# Altium schematic symbol library SchLibrary.SchLib: 142 symbols
Pins are listed as number, name and electrical type; pins without a type are passive.

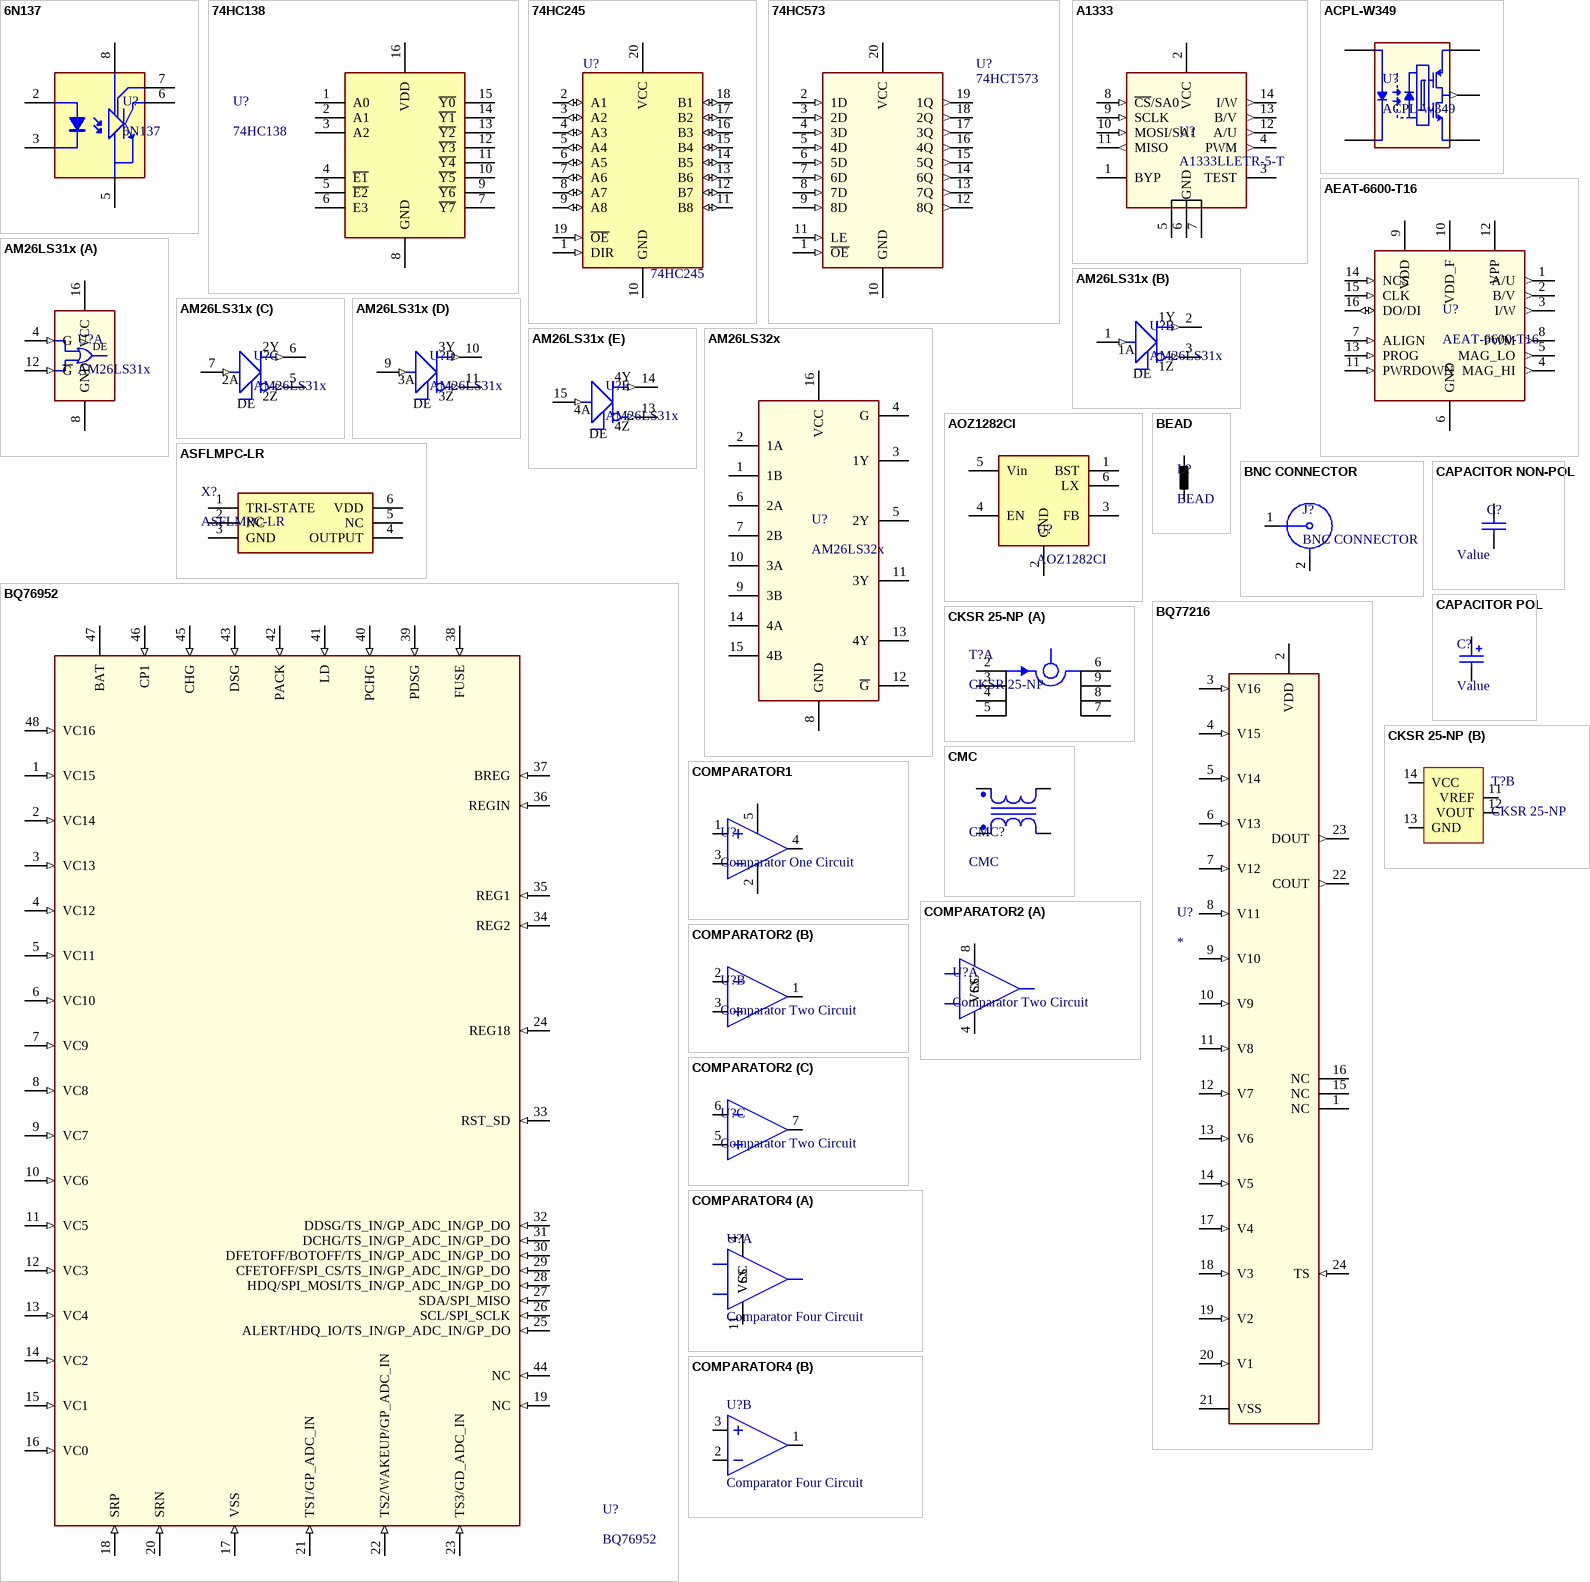
[diagram p0: symbols 6N137 to COMPARATOR4]

## 6N137
designator U?
Stock Code: *; Component Type: IC
pins: 2, 3, 5, 6, 7, 8

## 74HC138
designator U?
DECODER/DEMUX SINGLE 3-TO-8; Component Type: IC
pins: 1 A0, 2 A1, 3 A2, 4 ~{E1}, 5 ~{E2}, 6 E3, 7 ~{Y7}, 8 GND, 9 ~{Y6}, 10 ~{Y5}, 11 ~{Y4}, 12 ~{Y3}, 13 ~{Y2}, 14 ~{Y1}, 15 ~{Y0}, 16 VDD

## 74HC245
designator U?
IC BUS TRANSCEIVER 8BIT 20-Pin; Stock Code: *; Component Type: IC
pins: 1 DIR (in), 2 A1 (io), 3 A2 (io), 4 A3 (io), 5 A4 (io), 6 A5 (io), 7 A6 (io), 8 A7 (io), 9 A8 (io), 10 GND (power), 11 B8 (io), 12 B7 (io), 13 B6 (io), 14 B5 (io), 15 B4 (io), 16 B3 (io), 17 B2 (io), 18 B1 (io), 19 ~{OE} (in), 20 VCC (power)

## 74HC573
designator U?, comment 74HCT573
D-Type Transparent Latch; Stock Code: *; Component Type: IC
footprint SOIC127P1030X265-20M (SOIC, 20-Leads, Body 13,0x7,6mm (max), Pitch 1,27mm, IPC Low Density)
pins: 1 ~{OE} (in), 2 1D (in), 3 2D (in), 4 3D (in), 5 4D (in), 6 5D (in), 7 6D (in), 8 7D (in), 9 8D (in), 10 GND (power), 11 LE (in), 12 8Q (out), 13 7Q (out), 14 6Q (out), 15 5Q (out), 16 4Q (out), 17 3Q (out), 18 2Q (out), 19 1Q (out), 20 VCC (power)

## A1333
designator U?, comment A1333LLETR-5-T
Magnetic Rotary Encoder IC; Stock Code: *; Component Type: IC
footprint TSOP65P640X110-14N (TSOP, 14-Leads, Body 5,00x4,40mm, Pitch 0,65mm, IPC Medium Density)
pins: 1 BYP, 2 VCC (power), 3 TEST, 4 PWM (out), 5 GND (power), 6 GND (power), 7 GND (power), 8 ~{CS}/SA0 (in), 9 SCLK (in), 10 MOSI/SA1 (in), 11 MISO (out), 12 A/U (out), 13 B/V (out), 14 I/W (out)

## ACPL-W349
designator U?
SiC OPTO DRIVER 5KV 1CH GATE DRIVER 6SO; Component Type: IC
footprint SO-6W 8MM (Stretched SO-6 Package (8-mm Clearance))
pins: 1, 2 hidden, 3, 4 (power), 5 (out), 6 (power)

## AEAT-6600-T16
designator U?
Magnetic Rotary Encoder IC; Stock Code: *; Component Type: IC
footprint TSOP65P640X120-16N (TSOP, 16-Leads, Body 5,00x4,40mm, Pitch 0,65mm, IPC Medium Density)
pins: 1 A/U (out), 2 B/V (out), 3 I/W (out), 4 MAG_HI (out), 5 MAG_LO (out), 6 GND (power), 7 ALIGN (in), 8 PWM (out), 9 VDD (power), 10 VDD_F (power), 11 PWRDOWN (in), 12 VPP (power), 13 PROG (in), 14 NCS (in), 15 CLK (in), 16 DO/DI (io)

## AM26LS31x
designator U?
Quadruple Differential Line Driver; Stock Code: *; Component Type: IC
footprint SOIC127P600X175-16N (SOIC, 16-Leads, Body 9,90x3,90mm, Pitch 1,27mm, IPC Medium Density)
part A pins: 4 G (in), 8 GND (power), 12 ~{G} (in), 16 VCC (power)
part B pins: 1 1A (in), 2 1Y (out), 3 1Z (out)
part C pins: 5 2Z (out), 6 2Y (out), 7 2A (in)
part D pins: 9 3A (in), 10 3Y (out), 11 3Z (out)
part E pins: 13 4Z (out), 14 4Y (out), 15 4A (in)
part A text: DE
part B text: DE
part C text: DE
part D text: DE
part E text: DE

## AM26LS32x
designator U?
footprint SOIC127P600X175-16N (SOIC, 16-Leads, Body 9,90x3,90mm, Pitch 1,27mm, IPC Medium Density)
pins: 1 1B, 2 1A, 3 1Y, 4 G, 5 2Y, 6 2A, 7 2B, 8 GND, 9 3B, 10 3A, 11 3Y, 12 ~{G}, 13 4Y, 14 4A, 15 4B, 16 VCC

## AOZ1282CI
designator U?
IC REG BUCK ADJ 1.2A SOT23-6; Component Type: IC
footprint SOT95P245X110-6N (SOT23, 6-Leads, Body 2,90x2,45mm, Pitch 0,95mm, IPC Medium Density)
pins: 1 BST, 2 GND, 3 FB, 4 EN, 5 Vin, 6 LX

## ASFLMPC-LR
designator X?
OSCILLATOR; Stock Code: *; Component Type: IC
pins: 1 TRI-STATE, 2 NC, 3 GND, 4 OUTPUT, 5 NC, 6 VDD

## BEAD
designator L?
FERRITE BEAD; Stock Code: *; Component Type: Inductor
footprint CL1608-0603L (Chip Inductor, Body 1.6x0.8mm, IPC Low Density)
footprint CL2012-0805L (Chip Inductor, Body 2.0 x 1.3 mm, IPC Low Density)
footprint CL3216-1206L (Chip Inductor, Body 3.2x1.6mm, IPC Medium Density)
footprint CL3225-1210L (Chip Inductor, Body 3.2x2.5mm, IPC Low Density)
footprint CL6332-2512L (Chip Inductor, Body 6.3x3.2mm, IPC Low Density)
pins: 1, 2

## BNC CONNECTOR
designator J?
Stock Code: *; Component Type: Connector
pins: 1, 2 hidden, 2 hidden, 2 hidden, 2, 2

## BQ76952
designator U?
footprint TQFP-48 (TQFP, 48-Leads, Body 7,00x7,00mm, Pitch 0,50mm, IPC Medium Density)
pins: 1 VC15 (in), 2 VC14 (in), 3 VC13 (in), 4 VC12 (in), 5 VC11 (in), 6 VC10 (in), 7 VC9 (in), 8 VC8 (in), 9 VC7 (in), 10 VC6 (in), 11 VC5 (in), 12 VC3 (in), 13 VC4 (in), 14 VC2 (in), 15 VC1 (in), 16 VC0 (in), 17 VSS (in), 18 SRP (in), 19 NC (in), 20 SRN (in), 21 TS1/GP_ADC_IN (in), 22 TS2/WAKEUP/GP_ADC_IN (in), 23 TS3/GD_ADC_IN (in), 24 REG18 (in), 25 ALERT/HDQ_IO/TS_IN/GP_ADC_IN/GP_DO (in), 26 SCL/SPI_SCLK (in), 27 SDA/SPI_MISO (in), 28 HDQ/SPI_MOSI/TS_IN/GP_ADC_IN/GP_DO (in), 29 CFETOFF/SPI_CS/TS_IN/GP_ADC_IN/GP_DO (in), 30 DFETOFF/BOTOFF/TS_IN/GP_ADC_IN/GP_DO (in), 31 DCHG/TS_IN/GP_ADC_IN/GP_DO (in), 32 DDSG/TS_IN/GP_ADC_IN/GP_DO (in), 33 RST_SD (in), 34 REG2 (in), 35 REG1 (in), 36 REGIN (in), 37 BREG (in), 38 FUSE (in), 39 PDSG (in), 40 PCHG (in), 41 LD (in), 42 PACK (in), 43 DSG (in), 44 NC (in), 45 CHG (in), 46 CP1 (in), 47 BAT (power), 48 VC16 (in)

## BQ77216
designator U?
footprint TSSOP65P640X110-24N (TSSOP, 24-Leads, Body 7,80x4,40mm, Pitch 0,65mm, IPC Medium Density)
pins: 1 NC, 2 VDD (power), 3 V16 (in), 4 V15 (in), 5 V14 (in), 6 V13 (in), 7 V12 (in), 8 V11 (in), 9 V10 (in), 10 V9 (in), 11 V8 (in), 12 V7 (in), 13 V6 (in), 14 V5 (in), 15 NC, 16 NC, 17 V4 (in), 18 V3 (in), 19 V2 (in), 20 V1 (in), 21 VSS (power), 22 COUT (out), 23 DOUT (out), 24 TS (in)

## CAPACITOR NON-POL
designator C?, comment Value
Capacitor; Stock Code: *; Component Type: Capacitor
footprint CC6332-2512L (Chip Capacitor, Body 6.3x3.2mm, IPC Low Density)
footprint CC3225-1210L (Chip Capacitor, Body 3.2x2.5mm, IPC Low Density)
footprint CC3216-1206L (Chip Capacitor, Body 3.2x1.6mm, IPC Low Density)
footprint CC2012-0805L (Chip Capacitor, Body 2.0x1.3mm, IPC Low Density)
footprint CC1608-0603L (Chip Capacitor, Body 1.6x0.8mm, IPC Low Density)
pins: 1, 2

## CAPACITOR POL
designator C?, comment Value
Capacitor; Stock Code: *; Component Type: Capacitor
pins: 1, 2

## CKSR 25-NP
designator T?
Current Transformer; Stock Code: *; Component Type: CT
footprint CKSR (CKSR Series Current Transducer)
part A pins: 2 IN 2, 3 IN 3, 4 IN 4, 5 IN 5, 6 IN 6, 7 IN 7, 8 IN 8, 9 IN 9
part B pins: 11 VREF, 12 VOUT, 13 GND, 14 VCC

## CMC
designator CMC?
Common Mode Choke; Component Type: Inductor
footprint CMC P1_20 P2_20.4 W30 L45 H45
footprint CMC P1:37.5 P2:20.4 W45 L50 H50
footprint LPD4012 (COMMON MODE CHOKE)
footprint CMC P1:10 P2:13 L:16 W:18 H:26
pins: 1, 2, 3, 4

## COMPARATOR1
designator U?, comment Comparator One Circuit
Single Comparator Check the suitability of the case with the pin number; Stock Code: *; Component Type: IC
footprint SOIC8 (SOIC, 8-Leads, Body 4.9x3.9mm, Pitch 1.27mm, IPC Low Density)
pins: 1, 2, 3, 4 VSS, 5 VCC

## COMPARATOR2
designator U?, comment Comparator Two Circuit
Dual Comparator; Stock Code: *; Component Type: IC
footprint SOIC8 (SOIC, 8-Leads, Body 4.9x3.9mm, Pitch 1.27mm, IPC Low Density)
part A pins: 4 VSS, 8 VCC
part B pins: 1, 2, 3
part C pins: 5, 6, 7

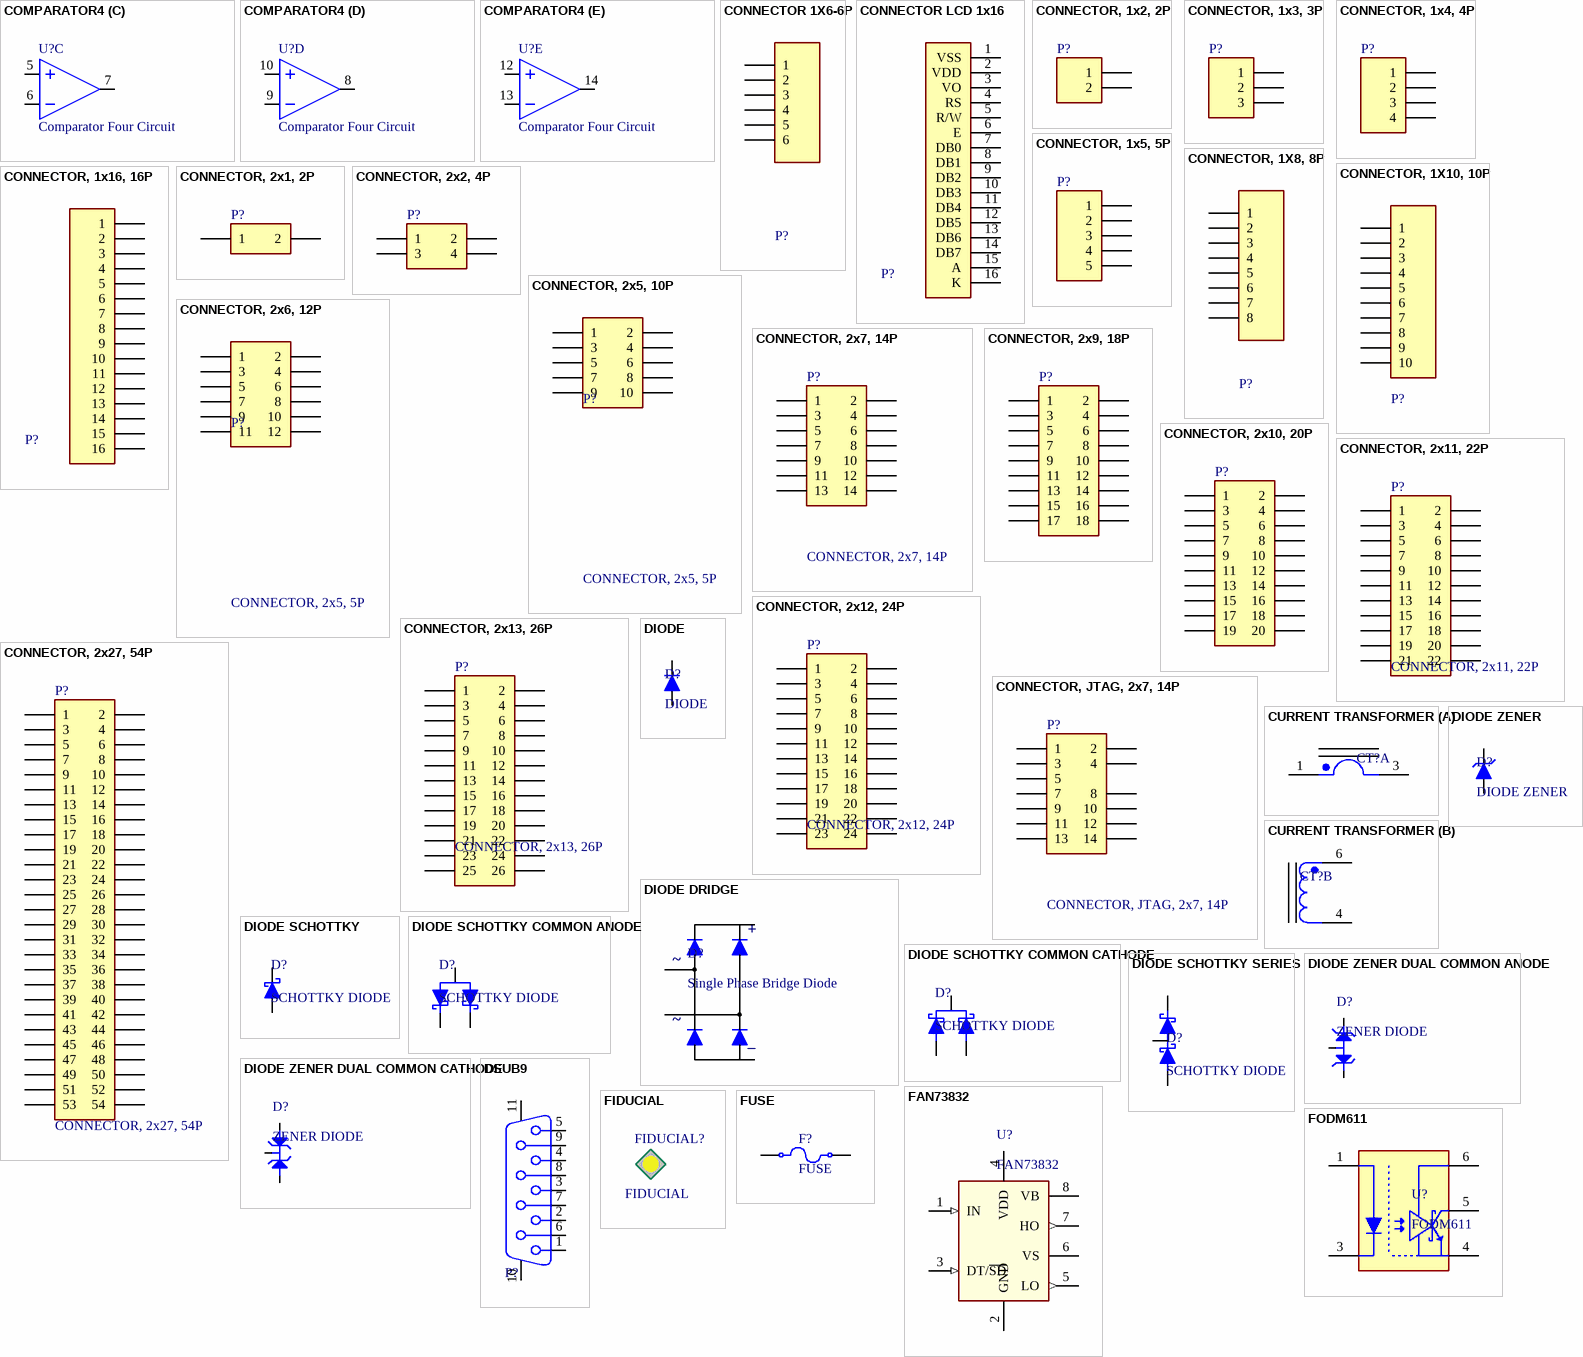
[diagram p1: symbols COMPARATOR4 to FUSE]

## COMPARATOR4
designator U?, comment Comparator Four Circuit
Quadruple Comparator; Stock Code: *; Component Type: IC
footprint SO-14
part A pins: 4 VCC, 11 VSS
part B pins: 1, 2, 3
part C pins: 5, 6, 7
part D pins: 8, 9, 10
part E pins: 12, 13, 14

## CONNECTOR 1X6-6P
designator P?  (value not drawn)
Stock Code: *; Component Type: Connector
footprint HDR_MALE_1X6_56_2.54MM_180 (Male Header, 1x6, 6p, 2.54mm, 180 degree)
pins: 1, 2, 3, 4, 5, 6

## CONNECTOR LCD 1x16
designator P?  (value not drawn)
LCD CONNECTOR 1x16; Component Type: Connector
footprint LCD 2004
pins: 1 VSS, 2 VDD, 3 VO, 4 RS, 5 R/W, 6 E, 7 DB0, 8 DB1, 9 DB2, 10 DB3, 11 DB4, 12 DB5, 13 DB6, 14 DB7, 15 A, 16 K

## CONNECTOR, 1x2, 2P
designator P?  (value not drawn)
Stock Code: *; Component Type: Connector
footprint HDR_MALE_1X2_2P_2.54MM_180 (Male Header, 1x2, 2p, 2.54mm, 180 degree)
pins: 1, 2

## CONNECTOR, 1x3, 3P
designator P?  (value not drawn)
Component Type: Connector
pins: 1, 2, 3

## CONNECTOR, 1x4, 4P
designator P?  (value not drawn)
Component Type: Connector
pins: 1, 2, 3, 4

## CONNECTOR, 1x5, 5P
designator P?  (value not drawn)
Component Type: Connector
pins: 1, 2, 3, 4, 5

## CONNECTOR, 1X8, 8P
designator P?, comment CONNECTOR 1X8-8P  (value not drawn)
Stock Code: *; Component Type: Connector
pins: 1, 2, 3, 4, 5, 6, 7, 8

## CONNECTOR, 1X10, 10P
designator P?, comment CONNECTOR 1X10-10P  (value not drawn)
Stock Code: *; Component Type: Connector
footprint DS1070-10MRV6 (Connector, 10p, 2.54mm, 90 degree)
footprint DS1070-10MVV6 (Connector, 10p, 2.54mm, 180 degree)
pins: 1, 2, 3, 4, 5, 6, 7, 8, 9, 10

## CONNECTOR, 1x16, 16P
designator P?  (value not drawn)
Component Type: Connector
pins: 1, 2, 3, 4, 5, 6, 7, 8, 9, 10, 11, 12, 13, 14, 15, 16

## CONNECTOR, 2x1, 2P
designator P?  (value not drawn)
Component Type: Connector
pins: 1, 2

## CONNECTOR, 2x2, 4P
designator P?, comment CONNECTOR, 2x1, 2P  (value not drawn)
Component Type: Connector
footprint HDR_MALE_2X2_4P_2.54MM_180 (Male Header, 4p, 2.54mm, 180 degree)
pins: 1, 2, 3, 4

## CONNECTOR, 2x5, 10P
designator P?, comment CONNECTOR, 2x5, 5P
CONNECTOR, 2x5, 10P; Stock Code: *; Component Type: Connector
footprint HDR_BOX_2X5_10P_2.54MM_180 (Box Header, 10p, 2.54mm, 180 degree)
pins: 1, 2, 3, 4, 5, 6, 7, 8, 9, 10

## CONNECTOR, 2x6, 12P
designator P?, comment CONNECTOR, 2x5, 5P
CONNECTOR, 2x6, 12P; Stock Code: *; Component Type: Connector
footprint HDR_MALE_2X6_12P_2.54MM_180 (Male Header, 12p, 2.54mm)
pins: 1, 2, 3, 4, 5, 6, 7, 8, 9, 10, 11, 12

## CONNECTOR, 2x7, 14P
designator P?
Stock Code: *; Component Type: Connector
pins: 1, 2, 3, 4, 5, 6, 7, 8, 9, 10, 11, 12, 13, 14

## CONNECTOR, 2x9, 18P
designator P?  (value not drawn)
Component Type: Connector
pins: 1, 2, 3, 4, 5, 6, 7, 8, 9, 10, 11, 12, 13, 14, 15, 16, 17, 18

## CONNECTOR, 2x10, 20P
designator P?  (value not drawn)
Component Type: Connector; Stock Code: *
pins: 1, 2, 3, 4, 5, 6, 7, 8, 9, 10, 11, 12, 13, 14, 15, 16, 17, 18, 19, 20

## CONNECTOR, 2x11, 22P
designator P?
Component Type: Connector; Stock Code: *
pins: 1, 2, 3, 4, 5, 6, 7, 8, 9, 10, 11, 12, 13, 14, 15, 16, 17, 18, 19, 20, 21, 22

## CONNECTOR, 2x12, 24P
designator P?
Component Type: Connector; Stock Code: *
pins: 1, 2, 3, 4, 5, 6, 7, 8, 9, 10, 11, 12, 13, 14, 15, 16, 17, 18, 19, 20, 21, 22, 23, 24

## CONNECTOR, 2x13, 26P
designator P?
Stock Code: *; Component Type: Connector
pins: 1, 2, 3, 4, 5, 6, 7, 8, 9, 10, 11, 12, 13, 14, 15, 16, 17, 18, 19, 20, 21, 22, 23, 24, 25, 26

## CONNECTOR, 2x27, 54P
designator P?
Component Type: Connector; Stock Code: *
pins: 1, 2, 3, 4, 5, 6, 7, 8, 9, 10, 11, 12, 13, 14, 15, 16, 17, 18, 19, 20, 21, 22, 23, 24, 25, 26, 27, 28, 29, 30, 31, 32, 33, 34, 35, 36, 37, 38, 39, 40, 41, 42, 43, 44, 45, 46, 47, 48, 49, 50, 51, 52, 53, 54

## CONNECTOR, JTAG, 2x7, 14P
designator P?
Stock Code: *; Component Type: Connector
footprint HDR_BOX_JTAG_2X7_14P_2.54MM_180 (Footprint not found)
pins: 1, 2, 3, 4, 5, 7, 8, 9, 10, 11, 12, 13, 14

## CURRENT TRANSFORMER
designator CT?  (value not drawn)
Component Type: CT; Stock Code: *
part A pins: 1, 3
part B pins: 4, 6

## DIODE
designator D?
Component Type: Diode; Stock Code: *
footprint SMA (DIOM4326X24N, Molded Diode, 2-Leads, Body 4.30x2.61mm, IPC Medium Density)
footprint SMB (DO-214-AA/SMB; 2 C-Bend Leads; Body 5.3 x 3.6 mm, inc. leads (LxW))
footprint SOD123
pins: 1, 2

## DIODE DRIDGE
designator D?, comment Single Phase Bridge Diode
Component Type: Diode; Stock Code: *
footprint KBL 4XX (Bridge Rectifier, 4A 1000V)
pins: 1 +, 2 ~, 3 ~, 4 -
text: _

## DIODE SCHOTTKY
designator D?, comment SCHOTTKY DIODE
SINGLE SCHOTTKY DIODE / Check the suitability of the case with the pin number; Stock Code: *; Component Type: Diode
pins: 1, 2
2 alternate drawings of the same symbol

## DIODE SCHOTTKY COMMON ANODE
designator D?, comment SCHOTTKY DIODE
DOUBLE SCHOTTKY DIODE / Check the suitability of the case with the pin number; Stock Code: *; Component Type: Diode
pins: 1, 2, 3
2 alternate drawings of the same symbol

## DIODE SCHOTTKY COMMON CATHODE
designator D?, comment SCHOTTKY DIODE
SINGLE SCHOTTKY DIODE / Check the suitability of the case with the pin number; Stock Code: *; Component Type: Diode
pins: 1, 2, 3
2 alternate drawings of the same symbol

## DIODE SCHOTTKY SERIES
designator D?, comment SCHOTTKY DIODE
DOUBLE SCHOTTKY DIODE / Check the suitability of the case with the pin number; Stock Code: *; Component Type: Diode
footprint SOT95P230X110-3N (SOT23, 3-Leads, Body 2.90x2.30mm, Pitch 0.95mm, IPC Medium Density)
pins: 1, 2, 3
2 alternate drawings of the same symbol

## DIODE ZENER
designator D?
Component Type: Diode; Stock Code: *
pins: 1, 2

## DIODE ZENER DUAL COMMON ANODE
designator D?, comment ZENER DIODE
DUAL COMMON ANODE / Check the suitability of the case with the pin number; Component Type: Diode; Stock Code: *
pins: 1 C, 2 C, 3 A

## DIODE ZENER DUAL COMMON CATHODE
designator D?, comment ZENER DIODE
DUAL COMMON CATHODE / Check the suitability of the case with the pin number; Component Type: Diode; Stock Code: *
pins: 1 C, 2 C, 3 A

## DSUB9
designator P?  (value not drawn)
Component Type: Connector
footprint DSUB1.385-2H9 (Connector; D Subminiature; 9 Position; Right Angle; Pitch 1.385 mm)
pins: 1, 2, 3, 4, 5, 6, 7, 8, 9, 10 MH1, 11 MH2
2 alternate drawings of the same symbol

## FAN73832
designator U?
Stock Code: *; Component Type: IC
pins: 1 IN (in), 2 GND (power), 3 DT/~{SD} (in), 4 VDD (power), 5 LO (out), 6 VS (power), 7 HO (out), 8 VB (power)

## FIDUCIAL
designator FIDUCIAL?  (no BOM)
Fidutial; Stock Code: *
footprint FIDUCIAL 1 (Fidutial 1mm with Top Layer Polygon Cutout)

## FODM611
designator U?
Stock Code: *; Component Type: IC
footprint SOTFL127P700X240-5N (SOTFL, 5-Leads, Body 4,10x7,00mm, Pitch 1,27mm, IPC Medium Density)
pins: 1 NC, 3 K, 4 NC2, 5 GND, 6 C

## FUSE
designator F?
Component Type: Fuse; Stock Code: *
pins: 1, 2

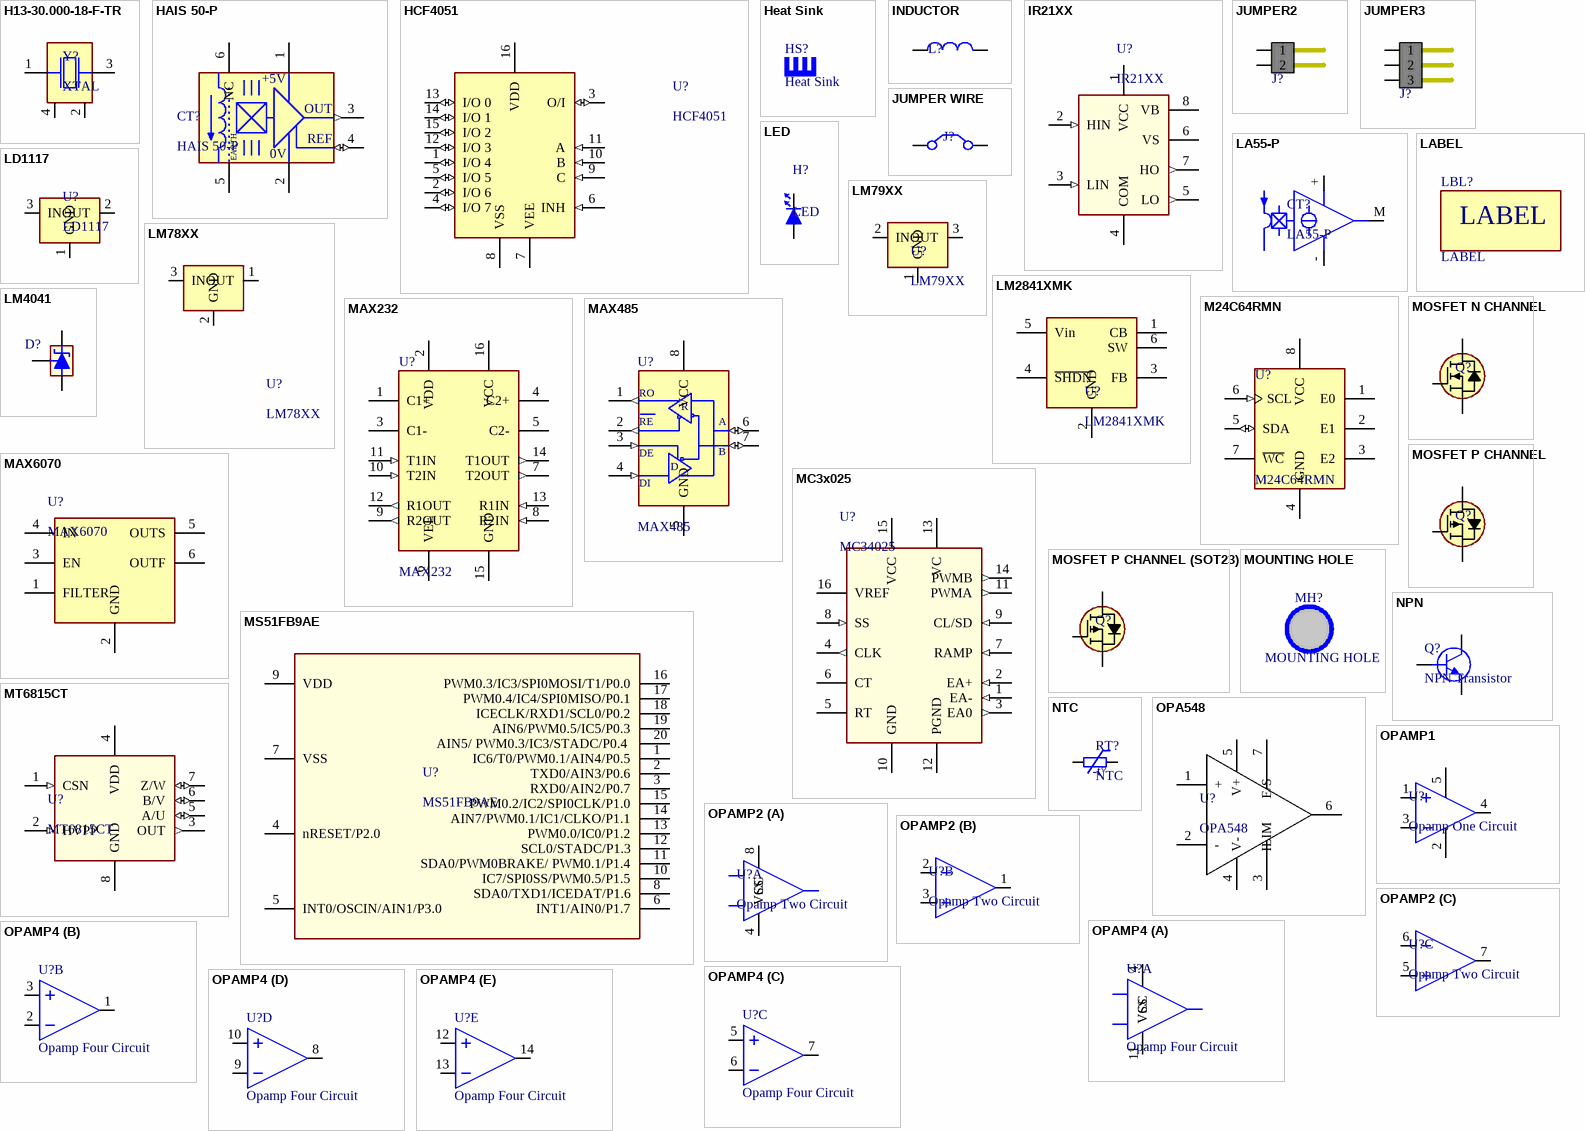
[diagram p2: symbols H13-30.000-18-F-TR to OPAMP4]

## H13-30.000-18-F-TR
designator Y?, comment XTAL
H13-30.000-18-F-TR; Stock Code: *; Component Type: XTAL
footprint H13 CRYSTAL
footprint H13 CRYSTAL
pins: 1 X1, 2 NC, 3 X2, 4 NC

## HAIS 50-P
designator CT?
Component Type: CT; Stock Code: *
footprint HAIS 50-P
pins: 1 VCC (power), 2 VSS (power), 3 OUT (out), 4 REF (io), 5 EARTH (power), 6 NC (power)
text: +5V; 0V

## HCF4051
designator U?
IC MUX/DEMUX SGL 8CH 16SOIC; Component Type: IC; Stock Code: *
footprint SOIC127P600X175-16N (SOIC, 16-Leads, Body 9,90x3,90mm, Pitch 1,27mm, IPC Medium Density)
pins: 1 I/O 4 (io), 2 I/O 6 (io), 3 O/I (io), 4 I/O 7 (io), 5 I/O 5 (io), 6 INH (in), 7 VEE (power), 8 VSS (power), 9 C (in), 10 B (in), 11 A (in), 12 I/O 3 (io), 13 I/O 0 (io), 14 I/O 1 (io), 15 I/O 2 (io), 16 VDD (power)

## Heat Sink
designator HS?
Stock Code: *
footprint HEAT SINK
footprint HEAT SINK 3 (HEAT SINK L95 W23.5 H25.7)
footprint HEAT SINK 4 (HEAT SINK)

## INDUCTOR
designator L?  (value not drawn)
Stock Code: *; Component Type: Inductor
footprint SDC105RHP (A=10.3 max. B=10.5 max. C=7.70 REF D=5.1 max. E=3.0 REF F=1.2 REF)
footprint DO3316P
pins: 1, 2
2 alternate drawings of the same symbol

## IR21XX
designator U?
IC-2101 HIGH-LOW DRIVER SOP8 IR; Stock Code: *; Component Type: IC
footprint SOIC127P600X175-8N (SOIC, 8-Leads, Body 4,90x3,90mm, Pitch 1,27mm, IPC Medium Density)
pins: 1 VCC (power), 2 HIN (in), 3 LIN (in), 4 COM (power), 5 LO (out), 6 VS (power), 7 HO (out), 8 VB (power)

## JUMPER2
designator J?  (value not drawn)
Jumper Two Circuit; Stock Code: *
footprint HDR1x2 MALE 180 2.54MM
pins: 1, 2

## JUMPER3
designator J?  (value not drawn)
Jumper Three Circuit; Stock Code: *
footprint HDR1x3 MALE 180 2.54MM
pins: 1, 2, 3

## JUMPER WIRE
designator J?, comment Jumper Wire  (value not drawn)
Jumper, Star Point Connection; Stock Code: *
footprint NET TIE
pins: 1 C1, 2 C2

## LA55-P
designator CT?
Stock Code: *; Component Type: CT
footprint LA55-P
pins: +, -, M

## LABEL
designator LBL?
Stock Code: *
footprint LABEL 1 (20x10 mm)

## LD1117
designator U?
Linear Voltage Regulators; Component Type: IC; Stock Code: *
footprint SOT230P700X180-4N (SOT223, 4-Leads, Body 6.50x7.00mm (avg), Pitch 2.30mm, IPC Medium Density)
pins: 1 GND (power), 2 OUT (power), 3 IN (power), 4 OUT (power)

## LED
designator H?
Stock Code: *; Component Type: Diode
footprint LED0805
footprint LED1206
pins: 1 ANODE, 2 CATHODE

## LM78XX
designator U?
Component Type: IC; Stock Code: *
footprint SOT89-150P410X160-3M (SOT89, 3-Leads, Body 4.50x2.50mm, Pitch 1.50mm, Lead Span 4.1mm, IPC Low Density)
pins: 1 OUT (power), 2 GND (power), 3 IN (power)

## LM79XX
designator U?
Component Type: IC; Stock Code: *
footprint SOT89-150P410X160-3M (SOT89, 3-Leads, Body 4.50x2.50mm, Pitch 1.50mm, Lead Span 4.1mm, IPC Low Density)
pins: 1 GND (power), 2 IN (power), 3 OUT (power)

## LM2841XMK
designator U?
IC REG BUCK ADJ 300MA TSOT23-6; Stock Code: *; Component Type: IC
footprint SOT95P245X110-6N (SOT23, 6-Leads, Body 2,90x2,45mm, Pitch 0,95mm, IPC Medium Density)
pins: 1 CB, 2 GND, 3 FB, 4 ~{SHDN}, 5 Vin, 6 SW

## LM4041
designator D?  (value not drawn)
ADJUSTABLE REFERENCE DIODE PIN1:REF, PIN2:C, PIN3:A; Stock Code: *; Component Type: IC
footprint SOT95P230X110-3N (SOT23, 3-Leads, Body 2.90x2.30mm, Pitch 0.95mm, IPC Medium Density)
pins: 1 REF, 2 C, 3 A

## M24C64RMN
designator U?
Stock Code: *; Component Type: IC
footprint SOIC127P600X175-8N (SOIC, 8-Leads, Body 4,90x3,90mm, Pitch 1,27mm, IPC Medium Density)
pins: 1 E0, 2 E1, 3 E2, 4 GND (power), 5 SDA (io), 6 SCL (in), 7 ~{WC}, 8 VCC (power)

## MAX232
designator U?
Stock Code: *; Component Type: IC
footprint WSO16
footprint D(R-PDSO-G16) (SOP, 16-Leads, Body 9,90x3,90mm, Pitch 1,27mm, IPC Medium Density)
pins: 1 C1+, 2 VDD (power), 3 C1-, 4 C2+, 5 C2-, 6 VEE (power), 7 T2OUT (out), 8 R2IN (in), 9 R2OUT (out), 10 T2IN (in), 11 T1IN (in), 12 R1OUT (out), 13 R1IN (in), 14 T1OUT (out), 15 GND (power), 16 VCC (power)

## MAX485
designator U?
ROHS-ICMAX485CSA MAXIM; Stock Code: *; Component Type: IC
footprint SOIC127P600X175-8N (SOIC, 8-Leads, Body 4,90x3,90mm, Pitch 1,27mm, IPC Medium Density)
pins: 1 RO (out), 2 ~{RE} (out), 3 DE (in), 4 DI (in), 5 GND (power), 6 A (io), 7 B (io), 8 VCC (power)
text: R; RE; D

## MAX6070
designator U?
Stock Code: *; Component Type: IC
footprint SOT95P245X110-6N (SOT23, 6-Leads, Body 2,90x2,45mm, Pitch 0,95mm, IPC Medium Density)
pins: 1 FILTER, 2 GND, 3 EN, 4 IN, 5 OUTS, 6 OUTF

## MC3x025
designator U?, comment MC34025
High Speed Double-Ended / PWM Controller; Stock Code: *; Component Type: IC
pins: 1 EA- (in), 2 EA+ (in), 3 EA0 (out), 4 CLK (out), 5 RT, 6 CT, 7 RAMP (in), 8 SS (in), 9 CL/SD (in), 10 GND (power), 11 PWMA (out), 12 PGND (power), 13 VC (power), 14 PWMB (out), 15 VCC (power), 16 VREF (power)

## MOSFET N CHANNEL
designator Q?, comment N CHANNEL MOSFET  (value not drawn)
Stock Code: *; Component Type: Transistor
footprint SOT230P700X180-4N (SOT223, 4-Leads, Body 6.50x7.00mm (avg), Pitch 2.30mm, IPC Medium Density)
footprint D-PAK (D-PAK/TO-252-AA; 3 Leads (1 Cropped); Body 10.2 (inc. leads) x 6.7 mm (LxW max))
footprint TO-247 CASE 340L-02 Horizontal Bottom
footprint TO-247 CASE 340L-02
pins: 1 G, 2 D, 3 S

## MOSFET P CHANNEL
designator Q?, comment P CHANNEL MOSFET  (value not drawn)
Stock Code: *; Component Type: Transistor
pins: 1 G, 2 D, 3 S

## MOSFET P CHANNEL (SOT23)
designator Q?, comment P CHANNEL MOSFET  (value not drawn)
FOR SO23 PIN-PAD LAYOUT; Stock Code: *; Component Type: Transistor
pins: 1 G, 2 S, 3 D

## MOUNTING HOLE
designator MH?  (no BOM)

## MS51FB9AE
designator U?
Component Type: IC; Stock Code: *; Stock Description: *; Supplier: *
footprint TSSOP65P640X120-20N (TSOP, 20-Leads, Body 6,50x4,40mm, Pitch 0,65mm, IPC Medium Density)
pins: 1 IC6/T0/PWM0.1/AIN4/P0.5, 2 TXD0/AIN3/P0.6, 3 RXD0/AIN2/P0.7, 4 nRESET/P2.0, 5 INT0/OSCIN/AIN1/P3.0, 6 INT1/AIN0/P1.7, 7 VSS, 8 SDA0/TXD1/ICEDAT/P1.6, 9 VDD, 10 IC7/SPI0SS/PWM0.5/P1.5, 11 SDA0/PWM0BRAKE/ PWM0.1/P1.4, 12 SCL0/STADC/P1.3, 13 PWM0.0/IC0/P1.2, 14 AIN7/PWM0.1/IC1/CLKO/P1.1, 15 PWM0.2/IC2/SPI0CLK/P1.0, 16 PWM0.3/IC3/SPI0MOSI/T1/P0.0, 17 PWM0.4/IC4/SPI0MISO/P0.1, 18 ICECLK/RXD1/SCL0/P0.2, 19 AIN6/PWM0.5/IC5/P0.3, 20 AIN5/ PWM0.3/IC3/STADC/P0.4 

## MT6815CT
designator U?
Magnetic Rotary Encoder IC; Stock Code: *; Component Type: IC
footprint SOIC127P600X175-8N (SOIC, 8-Leads, Body 4,90x3,90mm, Pitch 1,27mm, IPC Medium Density)
pins: 1 CSN (in), 2 HVPP (in), 3 OUT (out), 4 VDD (power), 5 A/U (io), 6 B/V (io), 7 Z/W (io), 8 GND (power)

## NPN
designator Q?, comment NPN Transistor
Stock Code: *; Component Type: Transistor
footprint SOT95P230X110-3N (SOT23, 3-Leads, Body 2.90x2.30mm, Pitch 0.95mm, IPC Medium Density)
pins: 1 B, 2 E, 3 C

## NTC
designator RT?
Stock Code: *; Component Type: Resistor
footprint SCK08102MFY (INRUSH CURRENT LIMITERS 10R 2A 8MM 20%)
pins: 1, 2
text: -t°

## OPA548
designator U?
footprint TO-220-7
pins: 1 +, 2 -, 3 ILIM, 4 V-, 5 V+, 6 Vo, 7 E/S

## OPAMP1
designator U?, comment Opamp One Circuit
Single Opamp / Check the suitability of the case with the pin number; Stock Code: *; Component Type: IC
footprint SOIC8 (SOIC, 8-Leads, Body 4.9x3.9mm, Pitch 1.27mm, IPC Low Density)
pins: 1, 2, 3, 4 VSS, 5 VCC

## OPAMP2
designator U?, comment Opamp Two Circuit
Dual Opamp; Stock Code: *; Component Type: IC
footprint SOIC127P600X175-8N (SOIC, 8-Leads, Body 4,90x3,90mm, Pitch 1,27mm, IPC Medium Density)
part A pins: 4 VSS, 8 VCC
part B pins: 1, 2, 3
part C pins: 5, 6, 7

## OPAMP4
designator U?, comment Opamp Four Circuit
Quadruple Opamp; Stock Code: *; Component Type: IC
footprint SO-14
part A pins: 4 VCC, 11 VSS
part B pins: 1, 2, 3
part C pins: 5, 6, 7
part D pins: 8, 9, 10
part E pins: 12, 13, 14

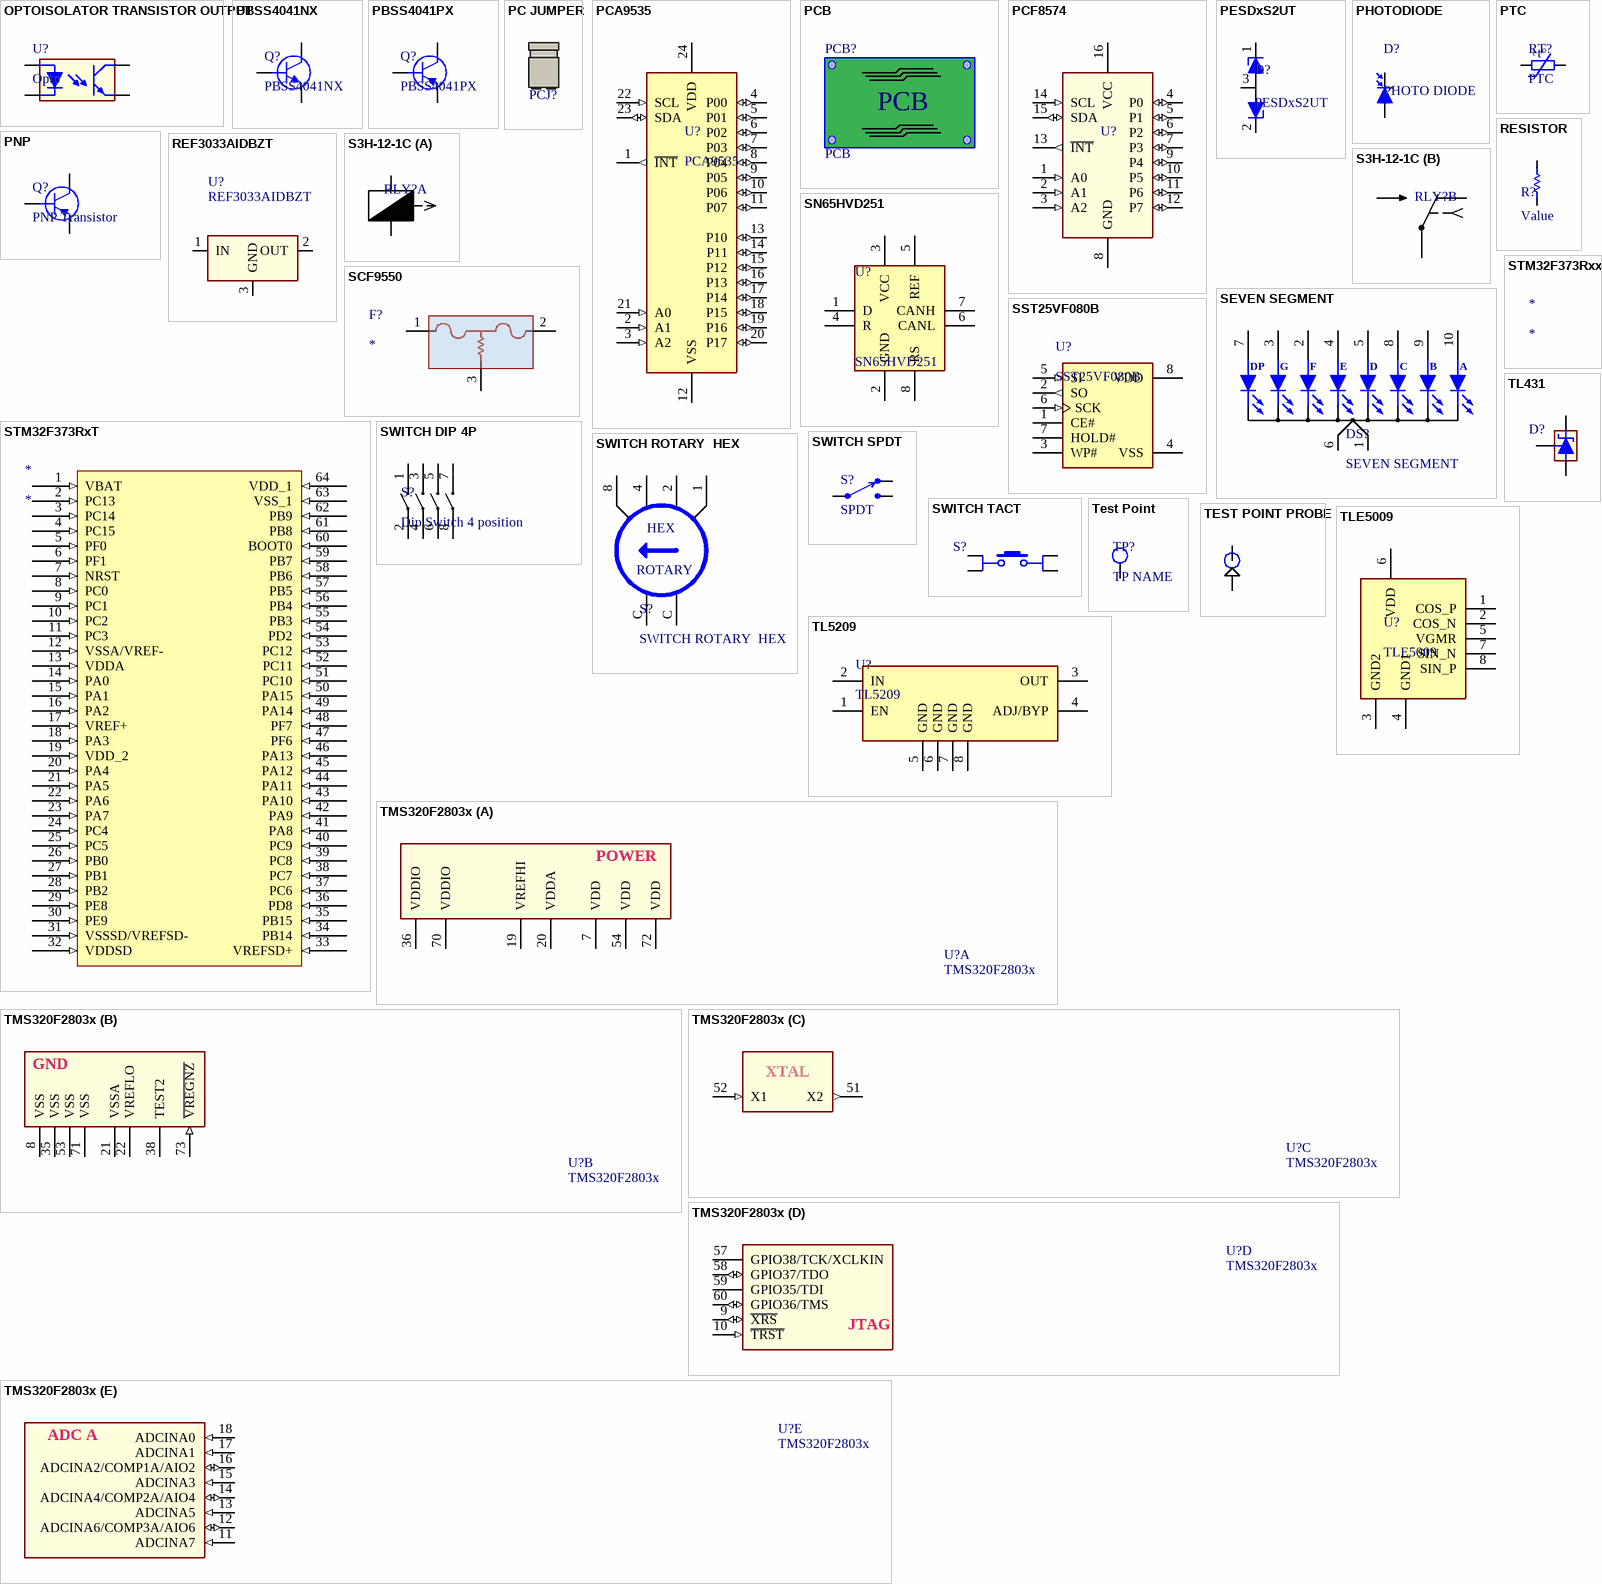
[diagram p3: symbols OPTOISOLATOR TRANSISTOR OUTPUT to TMS320F2803x]

## OPTOISOLATOR TRANSISTOR OUTPUT
designator U?, comment Opto
Optocoupler; Stock Code: *; Component Type: IC
footprint DIP4 SMD
footprint LTV-217 (SOIC, 4-Leads, Body 4,40x2,60mm, Pitch 1,27mm, IPC Medium Density)
pins: 1 A, 2 K, 3 E, 4 C

## PBSS4041NX
designator Q?
NXP BISS NPN Transistor; Stock Code: *; Component Type: Transistor
footprint SOT89R-150P410X160-3M (SOT89, 3-Leads, Body 4.50x2.50mm, Pitch 1.50mm, Lead Span 4.1mm - Reverse Pinning, IPC Low Density)
pins: 1 E, 2 C, 3 B

## PBSS4041PX
designator Q?
NXP BISS PNP Transistor; Stock Code: *; Component Type: Transistor
footprint SOT89R-150P410X160-3M (SOT89, 3-Leads, Body 4.50x2.50mm, Pitch 1.50mm, Lead Span 4.1mm - Reverse Pinning, IPC Low Density)
pins: 1 E, 2 C, 3 B

## PC JUMPER
designator PCJ?, comment PC Jumper  (value not drawn)
Stock Code: *
footprint PC Jumper (Footprint not found)

## PCA9535
designator U?
I2C I/O EXPANDER 16B; Stock Code: *; Component Type: IC
pins: 1 ~{INT} (out), 2 A1 (in), 3 A2 (in), 4 P00 (io), 5 P01 (io), 6 P02 (io), 7 P03 (io), 8 P04 (io), 9 P05 (io), 10 P06 (io), 11 P07 (io), 12 VSS (power), 13 P10 (io), 14 P11 (io), 15 P12 (io), 16 P13 (io), 17 P14 (io), 18 P15 (io), 19 P16 (io), 20 P17 (io), 21 A0 (in), 22 SCL (in), 23 SDA (io), 24 VDD (power)

## PCB
designator PCB?  (no BOM)
Stock Code: *
footprint PCB Name

## PCF8574
designator U?  (value not drawn)
I2C I/O EXPANDER 8B; Stock Code: *; Component Type: IC
pins: 1 A0 (in), 2 A1 (in), 3 A2 (in), 4 P0 (io), 5 P1 (io), 6 P2 (io), 7 P3 (io), 8 GND (power), 9 P4 (io), 10 P5 (io), 11 P6 (io), 12 P7 (io), 13 ~{INT} (out), 14 SCL (in), 15 SDA (io), 16 VCC (power)

## PESDxS2UT
designator D?
Stock Code: *; Component Type: Diode
footprint SOT23
pins: 1, 2, 3
2 alternate drawings of the same symbol

## PHOTODIODE
designator D?, comment PHOTO DIODE
LED; Stock Code: *; Component Type: Diode
footprint LED0805
footprint LED1206
pins: 1 ANODE, 2 CATHODE

## PNP
designator Q?, comment PNP Transistor
Stock Code: *; Component Type: Transistor
footprint SOT95P230X110-3N (SOT23, 3-Leads, Body 2.90x2.30mm, Pitch 0.95mm, IPC Medium Density)
pins: 1 B, 2 E, 3 C

## PTC
designator RT?
Stock Code: *; Component Type: Resistor
pins: 1, 2
text: +t°

## REF3033AIDBZT
designator U?
IC VOLT REF 3.3V LP SOT23-3; Stock Code: *; Component Type: IC
footprint SOT23
pins: 1 IN (power), 2 OUT (power), 3 GND (power)

## RESISTOR
designator R?, comment Value
Resistor; Component Type: Resistor
footprint CR6332-2512L (Chip Resistor, Body 6.3x3.2mm, IPC Low Density)
footprint CR3225-1210L (Chip Resistor, Body 3.2x2.5mm, IPC Low Density)
footprint CR3216-1206l (Chip Resistor, Body 3.2 x 1.6 mm, IPC Low Density)
footprint CR2012-0805l (Chip Resistor, Body 2.0 x 1.3 mm, IPC Low Density)
footprint CR1608-0603L (Chip Resistor, Body 1.6x0.8mm, IPC Low Density)
pins: 1, 2

## S3H-12-1C
designator RLY?, comment RELAY  (value not drawn)
SPDT - DOUBLE THROW; Stock Code: *; Component Type: Relay
part A pins: 1, 2
part B pins: 3, 4, 5

## SCF9550
designator F?
footprint SCF9550
pins: 1, 2, 3

## SEVEN SEGMENT
designator DS?
Common Cathode Single Digit Seven Segment Display; Stock Code: *; Component Type: Display
footprint FYS-3012A (7.80mm (0.30") digit height Single Digit Display)
pins: 1, 2, 3, 4, 5, 6, 7, 8, 9, 10
text: DP; G; F; E; D; C; B; A

## SN65HVD251
designator U?
Stock Code: *; Component Type: IC
footprint SOIC127P600X175-8N (SOIC, 8-Leads, Body 4,90x3,90mm, Pitch 1,27mm, IPC Medium Density)
pins: 1 D, 2 GND, 3 VCC, 4 R, 5 REF, 6 CANL, 7 CANH, 8 RS

## SST25VF080B
designator U?
Stock Code: *; Component Type: IC
footprint SO8_M (SOIC, 8-Leads, Body 4.9x3.9mm, Pitch 1.27mm, IPC Low Density)
pins: 1 CE#, 2 SO (out), 3 WP#, 4 VSS (power), 5 SI (in), 6 SCK (in), 7 HOLD#, 8 VDD (power)

## STM32F373RxT
designator *
pins: 1 VBAT (in), 2 PC13 (in), 3 PC14 (in), 4 PC15 (in), 5 PF0 (in), 6 PF1 (in), 7 NRST (in), 8 PC0 (in), 9 PC1 (in), 10 PC2 (in), 11 PC3 (in), 12 VSSA/VREF- (in), 13 VDDA (in), 14 PA0 (in), 15 PA1 (in), 16 PA2 (in), 17 VREF+ (in), 18 PA3 (in), 19 VDD_2 (in), 20 PA4 (in), 21 PA5 (in), 22 PA6 (in), 23 PA7 (in), 24 PC4 (in), 25 PC5 (in), 26 PB0 (in), 27 PB1 (in), 28 PB2 (in), 29 PE8 (in), 30 PE9 (in), 31 VSSSD/VREFSD- (in), 32 VDDSD (in), 33 VREFSD+ (in), 34 PB14 (in), 35 PB15 (in), 36 PD8 (in), 37 PC6 (in), 38 PC7 (in), 39 PC8 (in), 40 PC9 (in), 41 PA8 (in), 42 PA9 (in), 43 PA10 (in), 44 PA11 (in), 45 PA12 (in), 46 PA13 (in), 47 PF6 (in), 48 PF7 (in), 49 PA14 (in), 50 PA15 (in), 51 PC10 (in), 52 PC11 (in), 53 PC12 (in), 54 PD2 (in), 55 PB3 (in), 56 PB4 (in), 57 PB5 (in), 58 PB6 (in), 59 PB7 (in), 60 BOOT0 (in), 61 PB8 (in), 62 PB9 (in), 63 VSS_1 (in), 64 VDD_1 (in)

## STM32F373Rxx
designator *

## SWITCH DIP 4P
designator S?, comment Dip Switch 4 position
Stock Code: *; Component Type: Switch
footprint DIP SW 4P (Dip Switch, Four Position, 2.54mm)
pins: 1, 2, 3, 4, 5, 6, 7, 8

## SWITCH ROTARY  HEX
designator S?
Hexadecimal Coded Rotary DIP Switch; Stock Code: *; Component Type: Switch
footprint ERD116RS (Hexadecimal Coded Rotary DIP Switch)
pins: 1, 2, 4, 8, C, C
text: HEX; ROTARY

## SWITCH SPDT
designator S?, comment SPDT
Single Pole Double Throw Switch; Stock Code: *; Component Type: Switch
footprint L-KLS7-RS601A-1020013BB (SWITCH ROCKER SPDT 6A 250V)
pins: 1, 2, 3

## SWITCH TACT
designator S?  (value not drawn)
TACT SWITCH; Stock Code: *; Component Type: Switch
footprint SWITCH TACTILE 12x12x7.3
pins: 1 A, 2 A, 3 B, 4 B

## Test Point
designator TP?, comment TP NAME
Test Point; Stock Code: *
footprint TEST POINT
pins: 1

## TEST POINT PROBE
designator TP?  (value not drawn)
footprint TEST POINT PROBE
pins: 1, 2

## TL431
designator D?  (value not drawn)
REFERENCE DIODE PIN1:C, PIN2:REF, PIN3:A; Stock Code: *; Component Type: Diode
footprint SOT95P230X110-3N (SOT23, 3-Leads, Body 2.90x2.30mm, Pitch 0.95mm, IPC Medium Density)
pins: 1 C, 2 REF, 3 A

## TL5209
designator U?
Stock Code: *; Component Type: IC
footprint SO8_M (SOIC, 8-Leads, Body 4.9x3.9mm, Pitch 1.27mm, IPC Low Density)
pins: 1 EN, 2 IN, 3 OUT, 4 ADJ/BYP, 5 GND, 6 GND, 7 GND, 8 GND

## TLE5009
designator U?
GMR-Based Angular Sensor; Component Type: IC; Stock Code: *
footprint SOIC127P600X175-8N (SOIC, 8-Leads, Body 4,90x3,90mm, Pitch 1,27mm, IPC Medium Density)
pins: 1 COS_P, 2 COS_N, 3 GND2, 4 GND1, 5 VGMR, 6 VDD, 7 SIN_N, 8 SIN_P

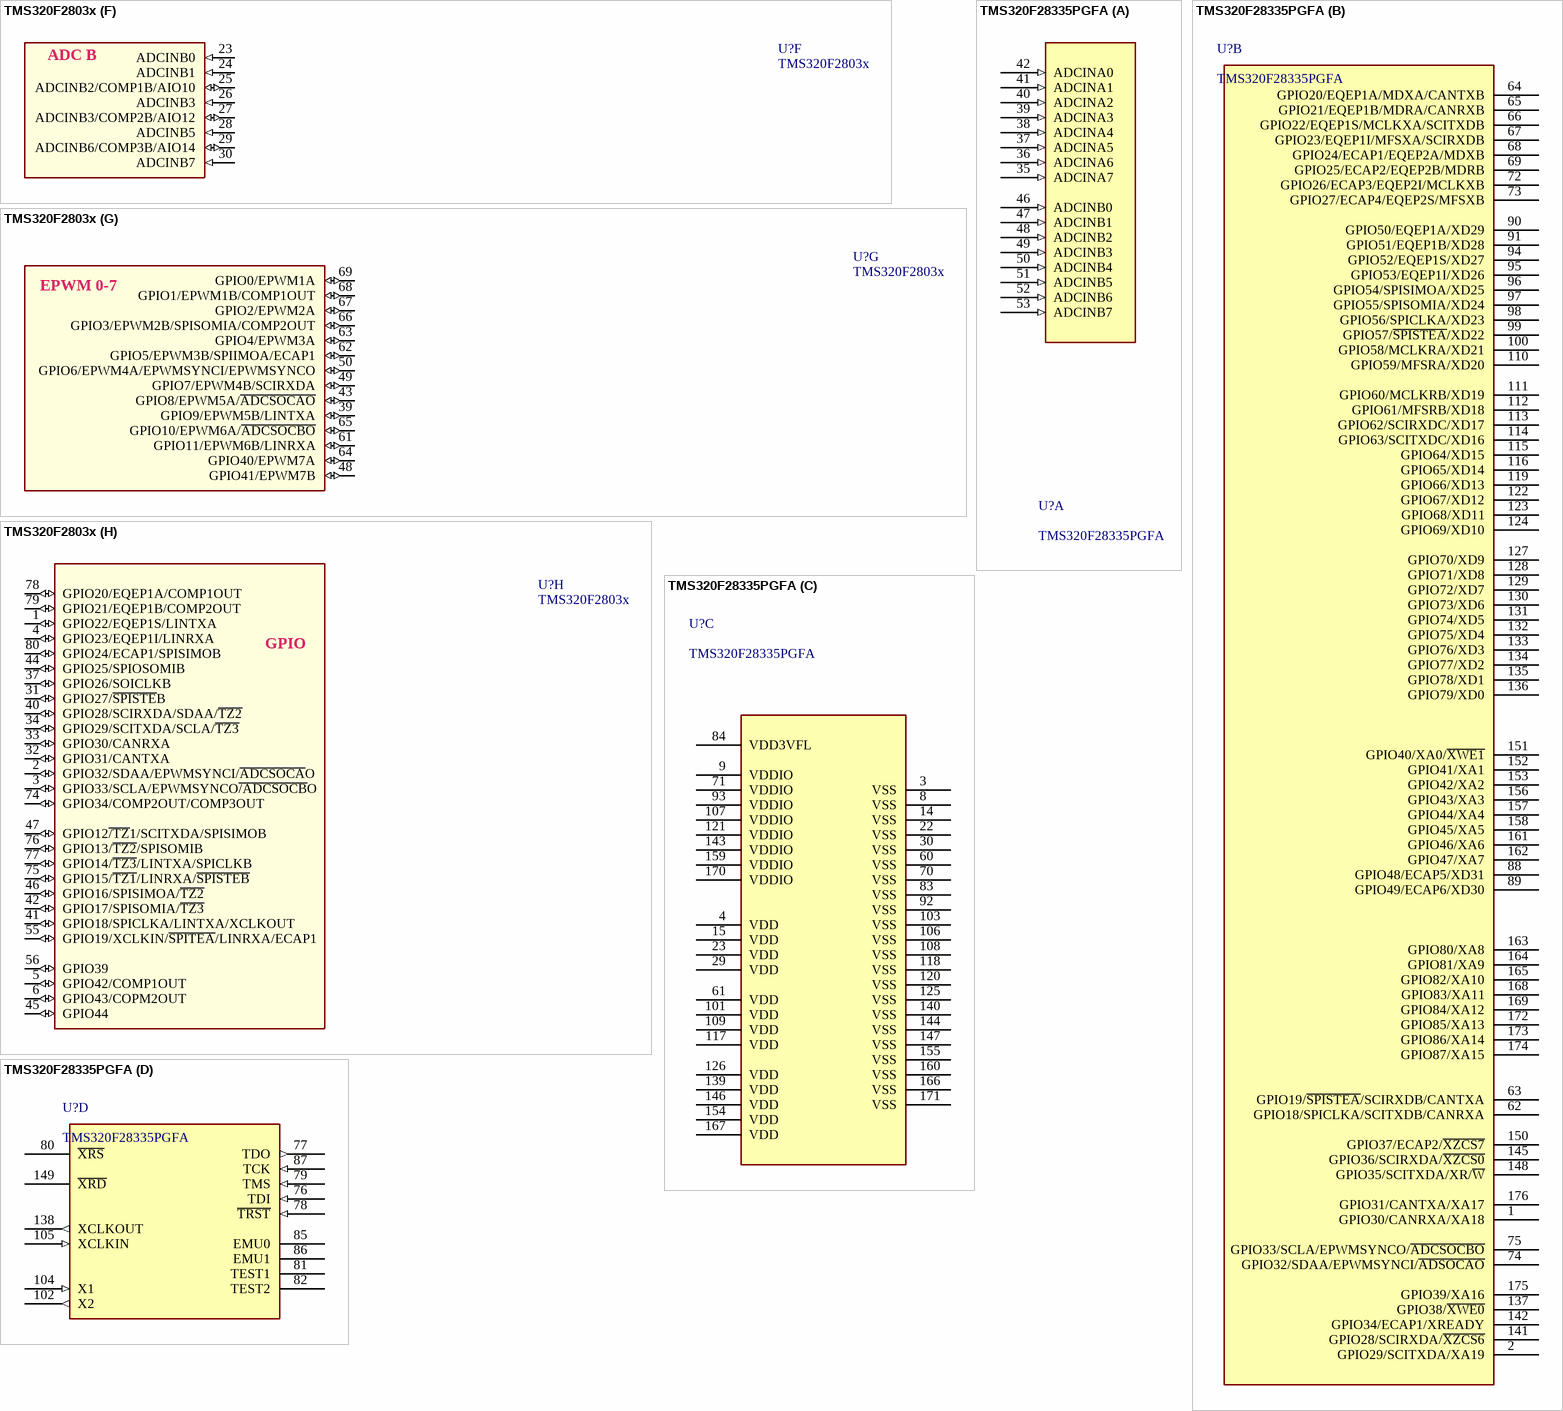
[diagram p4: symbols TMS320F2803x to TMS320F28335PGFA]

## TMS320F2803x
designator U?
TMS320F2803x ( Piccolo) MCUs; Stock Code: *; Component Type: IC
footprint TQFP-80
part A pins: 7 VDD (power), 19 VREFHI (power), 20 VDDA, 36 VDDIO (power), 54 VDD (power), 70 VDDIO (power), 72 VDD (power)
part B pins: 8 VSS (power), 21 VSSA (power), 22 VREFLO (power), 35 VSS (power), 38 TEST2, 53 VSS (power), 71 VSS (power), 73 ~{VREGNZ} (in)
part C pins: 51 X2 (out), 52 X1 (in)
part D pins: 9 ~{XRS} (io), 10 ~{TRST} (in), 57 GPIO38/TCK/XCLKIN, 58 GPIO37/TDO (io), 59 GPIO35/TDI, 60 GPIO36/TMS (io)
part E pins: 11 ADCINA7 (in), 12 ADCINA6/COMP3A/AIO6 (io), 13 ADCINA5 (in), 14 ADCINA4/COMP2A/AIO4 (io), 15 ADCINA3 (in), 16 ADCINA2/COMP1A/AIO2 (io), 17 ADCINA1 (in), 18 ADCINA0 (in)
part F pins: 23 ADCINB0 (in), 24 ADCINB1 (in), 25 ADCINB2/COMP1B/AIO10 (io), 26 ADCINB3 (in), 27 ADCINB3/COMP2B/AIO12 (io), 28 ADCINB5 (in), 29 ADCINB6/COMP3B/AIO14 (io), 30 ADCINB7 (in)
part G pins: 39 GPIO9/EPWM5B/LINTXA (io), 43 GPIO8/EPWM5A/~{ADCSOCAO} (io), 48 GPIO41/EPWM7B (io), 49 GPIO7/EPWM4B/SCIRXDA (io), 50 GPIO6/EPWM4A/EPWMSYNCI/EPWMSYNCO (io), 61 GPIO11/EPWM6B/LINRXA (io), 62 GPIO5/EPWM3B/SPIIMOA/ECAP1 (io), 63 GPIO4/EPWM3A (io), 64 GPIO40/EPWM7A (io), 65 GPIO10/EPWM6A/~{ADCSOCBO} (io), 66 GPIO3/EPWM2B/SPISOMIA/COMP2OUT (io), 67 GPIO2/EPWM2A (io), 68 GPIO1/EPWM1B/COMP1OUT (io), 69 GPIO0/EPWM1A (io)
part H pins: 1 GPIO22/EQEP1S/LINTXA (io), 2 GPIO32/SDAA/EPWMSYNCI/~{ADCSOCA}O (io), 3 GPIO33/SCLA/EPWMSYNCO~{/ADCSOCB}O (io), 4 GPIO23/EQEP1I/LINRXA (io), 5 GPIO42/COMP1OUT (io), 6 GPIO43/COPM2OUT (io), 31 GPIO27/~{SPISTE}B (io), 32 GPIO31/CANTXA (io), 33 GPIO30/CANRXA (io), 34 GPIO29/SCITXDA/SCLA/~{TZ3} (io), 37 GPIO26/SOICLKB (io), 40 GPIO28/SCIRXDA/SDAA/~{TZ2} (io), 41 GPIO18/SPICLKA/LINTXA/XCLKOUT (io), 42 GPIO17/SPISOMIA/~{TZ3} (io), 44 GPIO25/SPIOSOMIB (io), 45 GPIO44 (io), 46 GPIO16/SPISIMOA/~{TZ2} (io), 47 GPIO12~{/TZ}1/SCITXDA/SPISIMOB (io), 55 GPIO19/XCLKIN/~{SPITEA}/LINRXA/ECAP1 (io), 56 GPIO39 (io), 74 GPIO34/COMP2OUT/COMP3OUT (io), 75 GPIO15/~{TZ1}/LINRXA/~{SPISTEB} (io), 76 GPIO13/~{TZ2}/SPISOMIB (io), 77 GPIO14/~{TZ3}/LINTXA/SPICLKB (io), 78 GPIO20/EQEP1A/COMP1OUT (io), 79 GPIO21/EQEP1B/COMP2OUT (io), 80 GPIO24/ECAP1/SPISIMOB (io)
part A text: POWER
part B text: GND
part C text: XTAL
part D text: JTAG
part E text: ADC A
part F text: ADC B
part G text: EPWM 0-7
part H text: GPIO

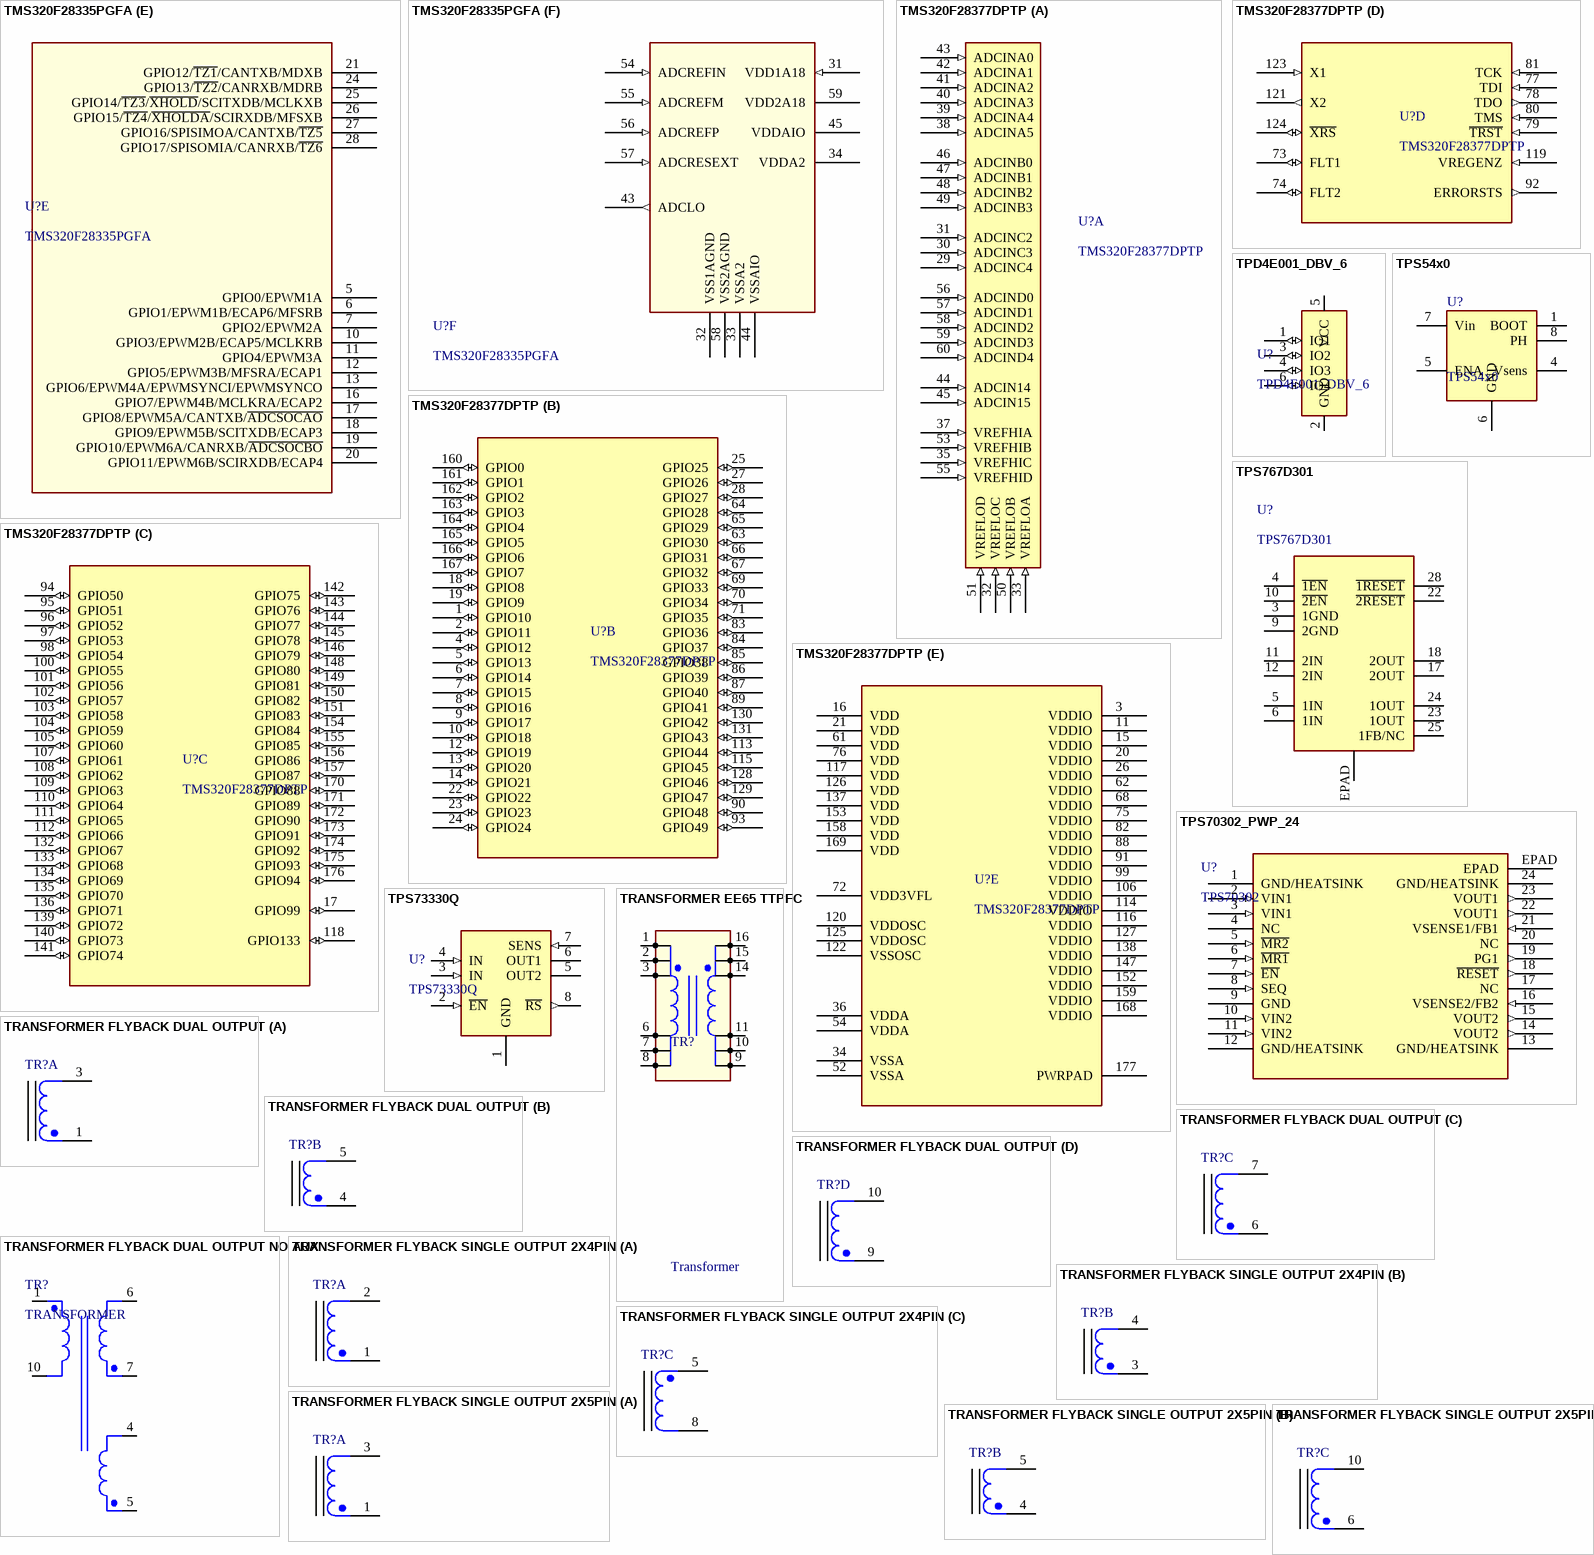
[diagram p5: symbols TMS320F28335PGFA to TRANSFORMER FLYBACK SINGLE OUTPUT 2X5PIN]

## TMS320F28335PGFA
designator U?
Stock Code: *; Component Type: IC
footprint LQFP176_L (Thin QFP, 176-Leads, Body 24x24mm, Pitch 0.5mm, IPC High Density)
part A pins: 35 ADCINA7 (in), 36 ADCINA6 (in), 37 ADCINA5 (in), 38 ADCINA4 (in), 39 ADCINA3 (in), 40 ADCINA2 (in), 41 ADCINA1 (in), 42 ADCINA0 (in), 46 ADCINB0 (in), 47 ADCINB1 (in), 48 ADCINB2 (in), 49 ADCINB3 (in), 50 ADCINB4 (in), 51 ADCINB5 (in), 52 ADCINB6 (in), 53 ADCINB7 (in)
part B pins: 1 GPIO30/CANRXA/XA18, 2 GPIO29/SCITXDA/XA19, 62 GPIO18/SPICLKA/SCITXDB/CANRXA, 63 GPIO19/~{SPISTEA}/SCIRXDB/CANTXA, 64 GPIO20/EQEP1A/MDXA/CANTXB, 65 GPIO21/EQEP1B/MDRA/CANRXB, 66 GPIO22/EQEP1S/MCLKXA/SCITXDB, 67 GPIO23/EQEP1I/MFSXA/SCIRXDB, 68 GPIO24/ECAP1/EQEP2A/MDXB, 69 GPIO25/ECAP2/EQEP2B/MDRB, 72 GPIO26/ECAP3/EQEP2I/MCLKXB, 73 GPIO27/ECAP4/EQEP2S/MFSXB, 74 GPIO32/SDAA/EPWMSYNCI/~{ADSOCAO}, 75 GPIO33/SCLA/EPWMSYNCO/~{ADCSOCBO}, 88 GPIO48/ECAP5/XD31, 89 GPIO49/ECAP6/XD30, 90 GPIO50/EQEP1A/XD29, 91 GPIO51/EQEP1B/XD28, 94 GPIO52/EQEP1S/XD27, 95 GPIO53/EQEP1I/XD26, 96 GPIO54/SPISIMOA/XD25, 97 GPIO55/SPISOMIA/XD24, 98 GPIO56/SPICLKA/XD23, 99 GPIO57/~{SPISTEA}/XD22, 100 GPIO58/MCLKRA/XD21, 110 GPIO59/MFSRA/XD20, 111 GPIO60/MCLKRB/XD19, 112 GPIO61/MFSRB/XD18, 113 GPIO62/SCIRXDC/XD17, 114 GPIO63/SCITXDC/XD16, 115 GPIO64/XD15, 116 GPIO65/XD14, 119 GPIO66/XD13, 122 GPIO67/XD12, 123 GPIO68/XD11, 124 GPIO69/XD10, 127 GPIO70/XD9, 128 GPIO71/XD8, 129 GPIO72/XD7, 130 GPIO73/XD6, 131 GPIO74/XD5, 132 GPIO75/XD4, 133 GPIO76/XD3, 134 GPIO77/XD2, 135 GPIO78/XD1, 136 GPIO79/XD0, 137 GPIO38/~{XWE0}, 141 GPIO28/SCIRXDA/~{XZCS6}, 142 GPIO34/ECAP1/XREADY, 145 GPIO36/SCIRXDA/~{XZCS0}, 148 GPIO35/SCITXDA/XR/~{W}, 150 GPIO37/ECAP2/~{XZCS7}, 151 GPIO40/XA0/~{XWE1}, 152 GPIO41/XA1, 153 GPIO42/XA2, 156 GPIO43/XA3, 157 GPIO44/XA4, 158 GPIO45/XA5, 161 GPIO46/XA6, 162 GPIO47/XA7, 163 GPIO80/XA8, 164 GPIO81/XA9, 165 GPIO82/XA10, 168 GPIO83/XA11, 169 GPIO84/XA12, 172 GPIO85/XA13, 173 GPIO86/XA14, 174 GPIO87/XA15, 175 GPIO39/XA16, 176 GPIO31/CANTXA/XA17
part C pins: 3 VSS (power), 4 VDD (power), 8 VSS (power), 9 VDDIO (power), 14 VSS (power), 15 VDD (power), 22 VSS (power), 23 VDD (power), 29 VDD (power), 30 VSS (power), 60 VSS (power), 61 VDD (power), 70 VSS (power), 71 VDDIO (power), 83 VSS (power), 84 VDD3VFL (power), 92 VSS (power), 93 VDDIO (power), 101 VDD (power), 103 VSS (power), 106 VSS (power), 107 VDDIO (power), 108 VSS (power), 109 VDD (power), 117 VDD (power), 118 VSS (power), 120 VSS (power), 121 VDDIO (power), 125 VSS (power), 126 VDD (power), 139 VDD (power), 140 VSS (power), 143 VDDIO (power), 144 VSS (power), 146 VDD (power), 147 VSS (power), 154 VDD (power), 155 VSS (power), 159 VDDIO (power), 160 VSS (power), 166 VSS (power), 167 VDD (power), 170 VDDIO (power), 171 VSS (power)
part D pins: 76 TDI (in), 77 TDO (out), 78 ~{TRST} (in), 79 TMS (in), 80 ~{XRS}, 81 TEST1, 82 TEST2, 85 EMU0, 86 EMU1, 87 TCK (in), 102 X2 (out), 104 X1 (in), 105 XCLKIN (in), 138 XCLKOUT (out), 149 ~{XRD}
part E pins: 5 GPIO0/EPWM1A, 6 GPIO1/EPWM1B/ECAP6/MFSRB, 7 GPIO2/EPWM2A, 10 GPIO3/EPWM2B/ECAP5/MCLKRB, 11 GPIO4/EPWM3A, 12 GPIO5/EPWM3B/MFSRA/ECAP1, 13 GPIO6/EPWM4A/EPWMSYNCI/EPWMSYNCO, 16 GPIO7/EPWM4B/MCLKRA/ECAP2, 17 GPIO8/EPWM5A/CANTXB/~{ADCSOCAO}, 18 GPIO9/EPWM5B/SCITXDB/ECAP3, 19 GPIO10/EPWM6A/CANRXB/~{ADCSOCBO}, 20 GPIO11/EPWM6B/SCIRXDB/ECAP4, 21 GPIO12/~{TZ1}/CANTXB/MDXB, 24 GPIO13/~{TZ2}/CANRXB/MDRB, 25 GPIO14/~{TZ3}/~{XHOLD}/SCITXDB/MCLKXB, 26 GPIO15/~{TZ4}/~{XHOLDA}/SCIRXDB/MFSXB, 27 GPIO16/SPISIMOA/CANTXB/~{TZ5}, 28 GPIO17/SPISOMIA/CANRXB/~{TZ6}
part F pins: 31 VDD1A18 (in), 32 VSS1AGND (power), 33 VSSA2 (power), 34 VDDA2 (power), 43 ADCLO (out), 44 VSSAIO (power), 45 VDDAIO (power), 54 ADCREFIN (in), 55 ADCREFM (in), 56 ADCREFP (in), 57 ADCRESEXT (in), 58 VSS2AGND (power), 59 VDD2A18 (power)

## TMS320F28377DPTP
designator U?
Stock Code: *; Component Type: IC
footprint TQFP176_M (Thin QFP, 176-Leads, Body 24x24mm, Pitch 0.5mm, IPC Low Density)
footprint TQFP176_N (Thin QFP, 176-Leads, Body 24x24mm, Pitch 0.5mm, IPC Medium Density)
footprint TQFP176_L (Thin QFP, 176-Leads, Body 24x24mm, Pitch 0.5mm, IPC High Density)
part A pins: 29 ADCINC4 (in), 30 ADCINC3 (in), 31 ADCINC2 (in), 32 VREFLOC (in), 33 VREFLOA (in), 35 VREFHIC (in), 37 VREFHIA (in), 38 ADCINA5 (in), 39 ADCINA4 (in), 40 ADCINA3 (in), 41 ADCINA2 (in), 42 ADCINA1 (in), 43 ADCINA0 (in), 44 ADCIN14 (in), 45 ADCIN15 (in), 46 ADCINB0 (in), 47 ADCINB1 (in), 48 ADCINB2 (in), 49 ADCINB3 (in), 50 VREFLOB (in), 51 VREFLOD (in), 53 VREFHIB (in), 55 VREFHID (in), 56 ADCIND0 (in), 57 ADCIND1 (in), 58 ADCIND2 (in), 59 ADCIND3 (in), 60 ADCIND4 (in)
part B pins: 1 GPIO10 (io), 2 GPIO11 (io), 4 GPIO12 (io), 5 GPIO13 (io), 6 GPIO14 (io), 7 GPIO15 (io), 8 GPIO16 (io), 9 GPIO17 (io), 10 GPIO18 (io), 12 GPIO19 (io), 13 GPIO20 (io), 14 GPIO21 (io), 18 GPIO8 (io), 19 GPIO9 (io), 22 GPIO22 (io), 23 GPIO23 (io), 24 GPIO24 (io), 25 GPIO25 (io), 27 GPIO26 (io), 28 GPIO27 (io), 63 GPIO30 (io), 64 GPIO28 (io), 65 GPIO29 (io), 66 GPIO31 (io), 67 GPIO32 (io), 69 GPIO33 (io), 70 GPIO34 (io), 71 GPIO35 (io), 83 GPIO36 (io), 84 GPIO37 (io), 85 GPIO38 (io), 86 GPIO39 (io), 87 GPIO40 (io), 89 GPIO41 (io), 90 GPIO48 (io), 93 GPIO49 (io), 113 GPIO44 (io), 115 GPIO45 (io), 128 GPIO46 (io), 129 GPIO47 (io), 130 GPIO42 (io), 131 GPIO43 (io), 160 GPIO0 (io), 161 GPIO1 (io), 162 GPIO2 (io), 163 GPIO3 (io), 164 GPIO4 (io), 165 GPIO5 (io), 166 GPIO6 (io), 167 GPIO7 (io)
part C pins: 17 GPIO99 (io), 94 GPIO50 (io), 95 GPIO51 (io), 96 GPIO52 (io), 97 GPIO53 (io), 98 GPIO54 (io), 100 GPIO55 (io), 101 GPIO56 (io), 102 GPIO57 (io), 103 GPIO58 (io), 104 GPIO59 (io), 105 GPIO60 (io), 107 GPIO61 (io), 108 GPIO62 (io), 109 GPIO63 (io), 110 GPIO64 (io), 111 GPIO65 (io), 112 GPIO66 (io), 118 GPIO133 (io), 132 GPIO67 (io), 133 GPIO68 (io), 134 GPIO69 (io), 135 GPIO70 (io), 136 GPIO71 (io), 139 GPIO72 (io), 140 GPIO73 (io), 141 GPIO74 (io), 142 GPIO75 (io), 143 GPIO76 (io), 144 GPIO77 (io), 145 GPIO78 (io), 146 GPIO79 (io), 148 GPIO80 (io), 149 GPIO81 (io), 150 GPIO82 (io), 151 GPIO83 (io), 154 GPIO84 (io), 155 GPIO85 (io), 156 GPIO86 (io), 157 GPIO87 (io), 170 GPIO88 (io), 171 GPIO89 (io), 172 GPIO90 (io), 173 GPIO91 (io), 174 GPIO92 (io), 175 GPIO93 (io), 176 GPIO94 (io)
part D pins: 73 FLT1 (io), 74 FLT2 (io), 77 TDI (in), 78 TDO (out), 79 ~{TRST} (in), 80 TMS (in), 81 TCK (in), 92 ERRORSTS (out), 119 VREGENZ (in), 121 X2 (out), 123 X1 (in), 124 ~{XRS} (io)
part E pins: 3 VDDIO (power), 11 VDDIO (power), 15 VDDIO (power), 16 VDD (power), 20 VDDIO (power), 21 VDD (power), 26 VDDIO (power), 34 VSSA (power), 36 VDDA (power), 52 VSSA (power), 54 VDDA (power), 61 VDD (power), 62 VDDIO (power), 68 VDDIO (power), 72 VDD3VFL (power), 75 VDDIO (power), 76 VDD (power), 82 VDDIO (power), 88 VDDIO (power), 91 VDDIO (power), 99 VDDIO (power), 106 VDDIO (power), 114 VDDIO (power), 116 VDDIO (power), 117 VDD (power), 120 VDDOSC (power), 122 VSSOSC (power), 125 VDDOSC (power), 126 VDD (power), 127 VDDIO (power), 137 VDD (power), 138 VDDIO (power), 147 VDDIO (power), 152 VDDIO (power), 153 VDD (power), 158 VDD (power), 159 VDDIO (power), 168 VDDIO (power), 169 VDD (power), 177 PWRPAD (power)

## TPD4E001_DBV_6
designator U?
Stock Code: *; Component Type: Diode
footprint SOT95P245X110-6N (SOT23, 6-Leads, Body 2,90x2,45mm, Pitch 0,95mm, IPC Medium Density)
pins: 1 IO1 (io), 2 GND (power), 3 IO2 (io), 4 IO3 (io), 5 VCC (power), 6 IO4 (io)

## TPS54x0
designator U?
Stock Code: *; Component Type: IC
footprint SOIC127P600X175-8N (SOIC, 8-Leads, Body 4,90x3,90mm, Pitch 1,27mm, IPC Medium Density)
pins: 1 BOOT, 4 Vsens, 5 ENA, 6 GND, 7 Vin, 8 PH

## TPS767D301
designator U?
Stock Code: *; Component Type: IC
footprint PWP (R-PDSO-G28)
pins: 1 NC hidden, 2 NC hidden, 3 1GND, 4 ~{1EN}, 5 1IN, 6 1IN, 7 NC hidden, 8 NC hidden, 9 2GND, 10 ~{2EN}, 11 2IN, 12 2IN, 13 NC hidden, 14 NC hidden, 15 NC hidden, 16 NC hidden, 17 2OUT, 18 2OUT, 19 NC hidden, 20 NC hidden, 21 NC hidden, 22 ~{2RESET}, 23 1OUT, 24 1OUT, 25 1FB/NC, 26 NC hidden, 27 NC hidden, 28 ~{1RESET}, EPAD

## TPS70302_PWP_24
designator U?, comment TPS70302
TPS70302_PWP_24; Stock Code: *; Component Type: IC
footprint TSSOP24_M_THERMAL PAD (TSOP, 24-Leads, Body 7.8x4.4mm, Pitch 0.65mm, IPC Low Density)
pins: 1 GND/HEATSINK (power), 2 VIN1 (in), 3 VIN1 (in), 4 NC, 5 ~{MR2} (in), 6 ~{MR1} (in), 7 ~{EN} (in), 8 SEQ (in), 9 GND (power), 10 VIN2 (in), 11 VIN2 (in), 12 GND/HEATSINK (power), 13 GND/HEATSINK (power), 14 VOUT2 (out), 15 VOUT2 (out), 16 VSENSE2/FB2 (in), 17 NC, 18 ~{RESET} (out), 19 PG1 (out), 20 NC, 21 VSENSE1/FB1 (in), 22 VOUT1 (out), 23 VOUT1 (out), 24 GND/HEATSINK (power), EPAD

## TPS73330Q
designator U?
Stock Code: *; Component Type: IC
footprint SOIC127P600X175-8N (SOIC, 8-Leads, Body 4,90x3,90mm, Pitch 1,27mm, IPC Medium Density)
pins: 1 GND (power), 2 ~{EN} (in), 3 IN (in), 4 IN (in), 5 OUT2 (power), 6 OUT1 (power), 7 SENS (in), 8 ~{RS} (out)

## TRANSFORMER EE65 TTPFC
designator TR?, comment Transformer
Stock Code: *; Component Type: Transformer
footprint EE65 TTPFC
pins: 1 Pri+, 2 Pri+, 3 Pri+, 4 Pri+ hidden, 5 Pri+ hidden, 6 Pri-, 7 Pri-, 8 Sec1-, 9 Sec1-, 10 Sec2+, 11 Sec2-, 12 Sec2- hidden, 13 Sec1+ hidden, 14 Sec1+, 15 Sec1+, 16 Sec1+
2 alternate drawings of the same symbol

## TRANSFORMER FLYBACK DUAL OUTPUT
designator TR?, comment FLYBACK TRANSFORMER  (value not drawn)
Application-specific definition will be added; Stock Code: *; Component Type: Transformer
part A pins: 1, 3
part B pins: 4, 5
part C pins: 6, 7
part D pins: 9, 10

## TRANSFORMER FLYBACK DUAL OUTPUT NO AUX
designator TR?, comment TRANSFORMER
Application-specific definition will be added; Stock Code: *; Component Type: Transformer
pins: 1, 4, 5, 6, 7, 10

## TRANSFORMER FLYBACK SINGLE OUTPUT 2X4PIN
designator TR?, comment FLYBACK TRANSFORMER  (value not drawn)
Application-specific definition will be added; Stock Code: *; Component Type: Transformer
footprint E16/8/5 H 8 PIN
part A pins: 1, 2
part B pins: 3, 4
part C pins: 5, 8

## TRANSFORMER FLYBACK SINGLE OUTPUT 2X5PIN
designator TR?, comment FLYBACK TRANSFORMER  (value not drawn)
Application-specific definition will be added; Stock Code: *; Component Type: Transformer
part A pins: 1, 3
part B pins: 4, 5
part C pins: 6, 10

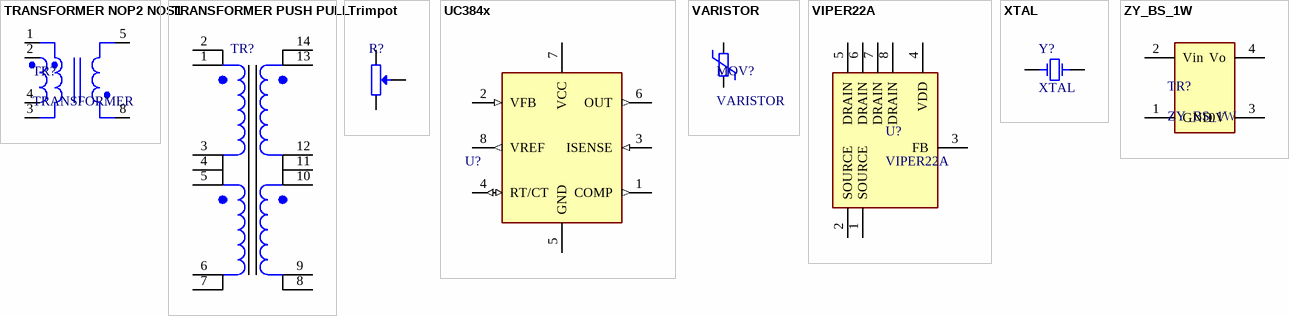
[diagram p6: symbols TRANSFORMER NOP2 NOS1 to ZY_BS_1W]

## TRANSFORMER NOP2 NOS1
designator TR?, comment TRANSFORMER
TRANSFORMER Number of Primary:1 Number of Secondary:1; Stock Code: *; Component Type: Transformer
pins: 1, 2, 3, 4, 5, 6 hidden, 7 hidden, 8

## TRANSFORMER PUSH PULL
designator TR?, comment PUSH PULL TRANS  (value not drawn)
Application-specific definition will be added; Stock Code: *; Component Type: Transformer
pins: 1, 2, 3, 4, 5, 6, 7, 8, 9, 10, 11, 12, 13, 14

## Trimpot
designator R?  (value not drawn)
Stock Code: *; Component Type: Resistor
pins: 1, 2, 3

## UC384x
designator U?  (value not drawn)
Stock Code: *; Component Type: IC
footprint SOIC127P600X175-8N (SOIC, 8-Leads, Body 4,90x3,90mm, Pitch 1,27mm, IPC Medium Density)
pins: 1 COMP (out), 2 VFB (in), 3 ISENSE (in), 4 RT/CT (io), 5 GND (power), 6 OUT (out), 7 VCC (power), 8 VREF (out)

## VARISTOR
designator MOV?
Stock Code: *; Component Type: Resistor
footprint MOV P7.5 D10 T4.4 (VARISTOR 300V 2.5KA DISC 10MM)
pins: 1, 2

## VIPER22A
designator U?
Stock Code: *; Component Type: IC
footprint SOIC127P600X175-8N (SOIC, 8-Leads, Body 4,90x3,90mm, Pitch 1,27mm, IPC Medium Density)
pins: 1 SOURCE, 2 SOURCE, 3 FB, 4 VDD, 5 DRAIN, 6 DRAIN, 7 DRAIN, 8 DRAIN

## XTAL
designator Y?
Stock Code: *; Component Type: XTAL
footprint HC49S SMD (SMD Crystal)
pins: 1 OSC1, 2 OSC2

## ZY_BS_1W
designator TR?
Stock Code: *; Component Type: Transformer
footprint ZY_BS_1W
pins: 1 GND, 2 Vin, 3 0V, 4 Vo